# Altium schematic symbol library TMDX654GPEVM.SCHLIB: 339 symbols (part 3 of 6)
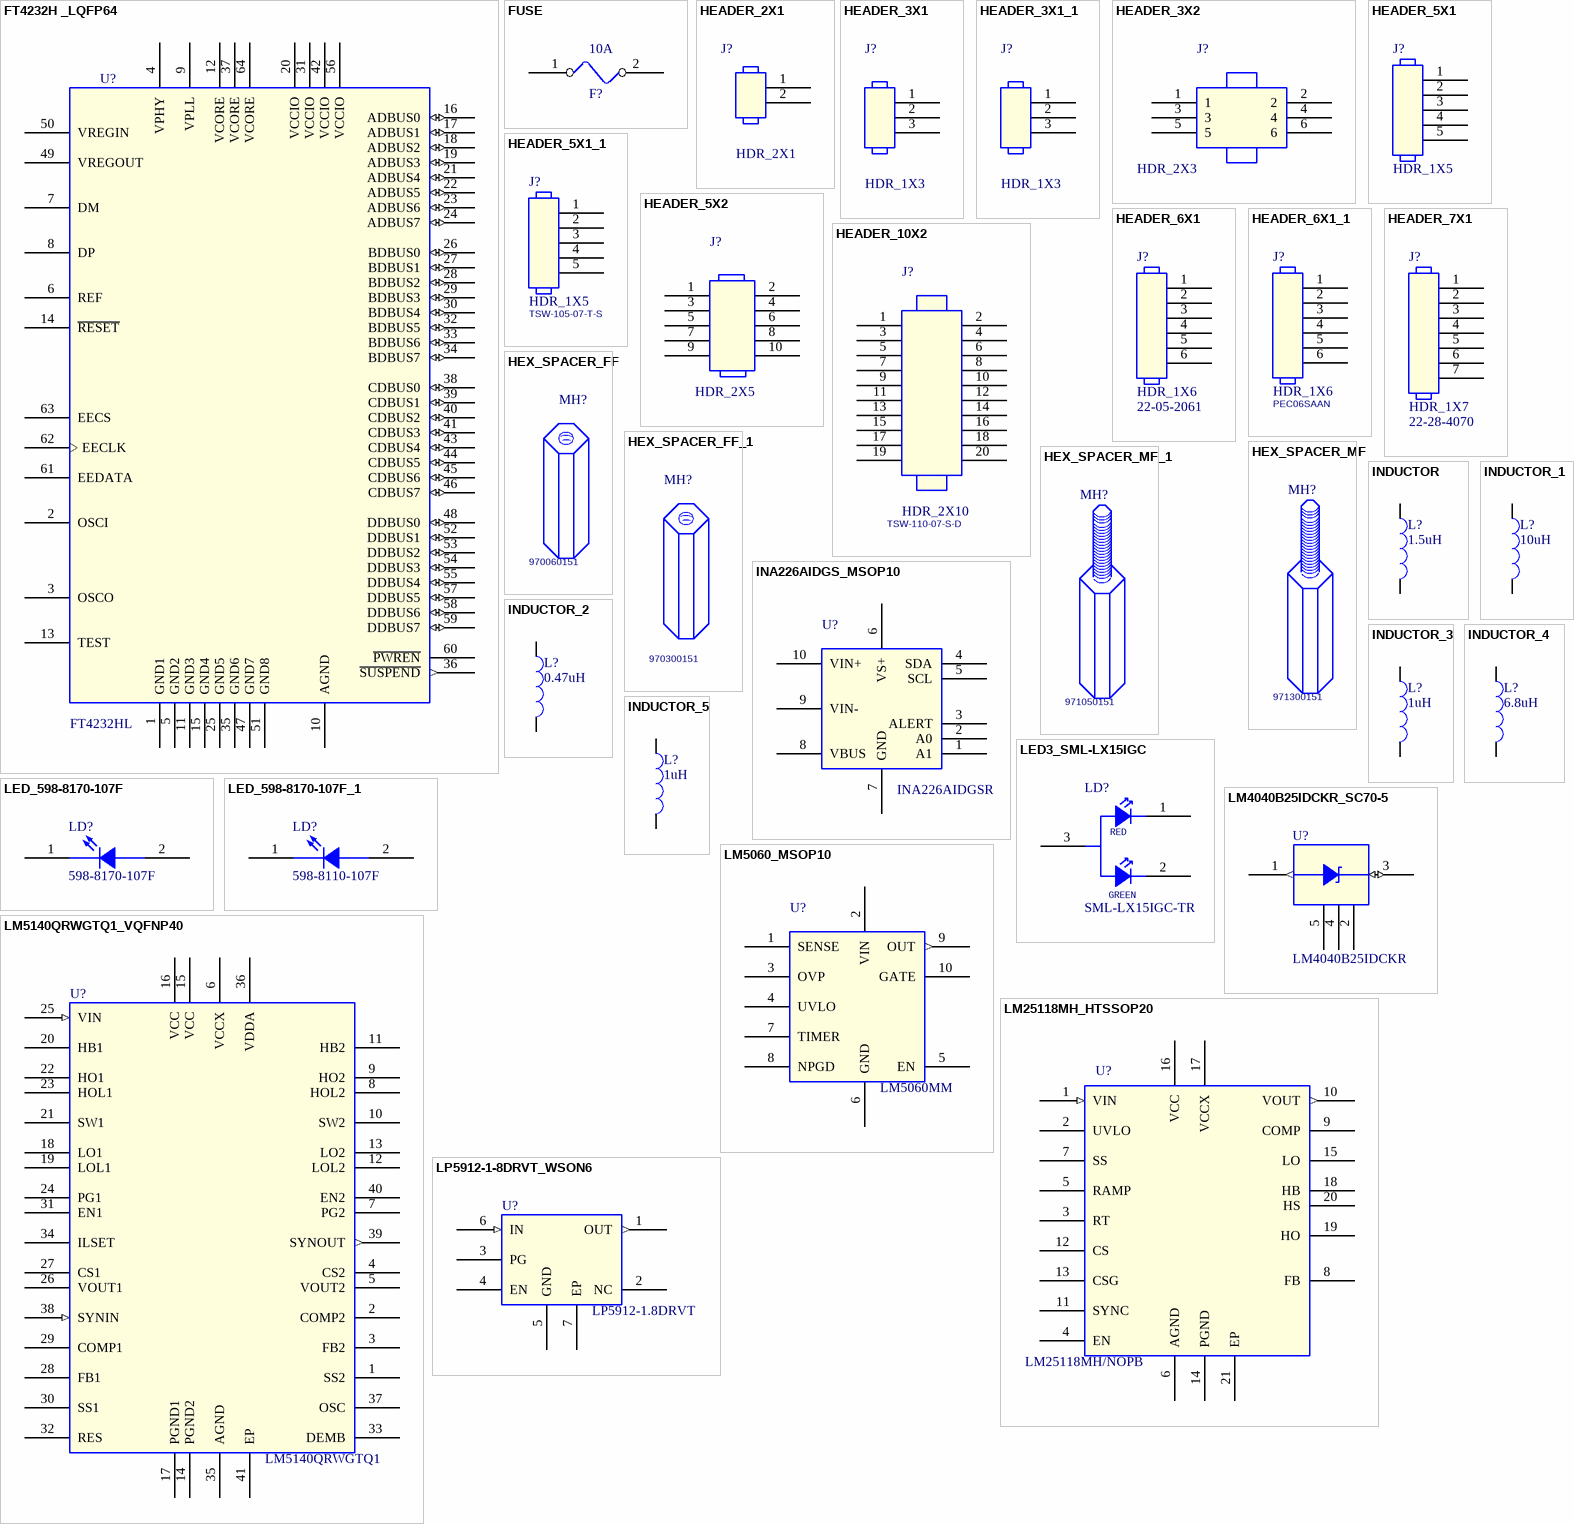
[diagram p22: symbols FT4232H _LQFP64 to LP5912-1-8DRVT_WSON6]

## FT4232H _LQFP64
designator U?, comment FT4232HL
IC HIGH SPEED QUAD USB UART LQFP64; Mistral Part No: 141013080006-R; Mfr_name: FTDI; Mfr_part_number: FT4232HL-REEL; Part_type: ICS\DIGITAL\PERIPHERAL; PCB Footprint: LQFP64_19-68_390X390_1-6; Project: DM37XX; Tolerance: NA; Customs_HS_Code: 85423100; Custom_Duty: 15%; MECHANICAL 3D STEP FILE: LQFP64_19-68_390X390_1-6; Voltage: NA; Wattage: NA; Package: LQFP64; Distributor_name: DIGIKEY; Distributor_part_number: 768-1026-1-ND; Height: 1.60MM; Weight: 342.7mg; Temperature: -40°C+85°C; Datasheet: Y:\MIS_DATABASE\DATASHEETS\ICS\DIGITAL\PERIPHERAL\FT4232HX.PDF; Crtd /date: VIJAYALAKSHMI/120813; Chkd/date: MANIRAJA/110917; Library Ref: FT4232H _LQFP64
footprint LQF64
footprint LQFP64_19-68_390X390_1-6
pins: 1 GND1 (power), 2 OSCI, 3 OSCO, 4 VPHY (power), 5 GND2 (power), 6 REF, 7 DM, 8 DP, 9 VPLL (power), 10 AGND (power), 11 GND3 (power), 12 VCORE (power), 13 TEST, 14 ~{RESET}, 15 GND4 (power), 16 ADBUS0 (io), 17 ADBUS1 (io), 18 ADBUS2 (io), 19 ADBUS3 (io), 20 VCCIO (power), 21 ADBUS4 (io), 22 ADBUS5 (io), 23 ADBUS6 (io), 24 ADBUS7 (io), 25 GND5 (power), 26 BDBUS0 (io), 27 BDBUS1 (io), 28 BDBUS2 (io), 29 BDBUS3 (io), 30 BDBUS4 (io), 31 VCCIO (power), 32 BDBUS5 (io), 33 BDBUS6 (io), 34 BDBUS7 (io), 35 GND6 (power), 36 ~{SUSPEND} (out), 37 VCORE (power), 38 CDBUS0 (io), 39 CDBUS1 (io), 40 CDBUS2 (io), 41 CDBUS3 (io), 42 VCCIO (power), 43 CDBUS4 (io), 44 CDBUS5 (io), 45 CDBUS6 (io), 46 CDBUS7 (io), 47 GND7 (power), 48 DDBUS0 (io), 49 VREGOUT (power), 50 VREGIN (power), 51 GND8 (power), 52 DDBUS1 (io), 53 DDBUS2 (io), 54 DDBUS3 (io), 55 DDBUS4 (io), 56 VCCIO (power), 57 DDBUS5 (io), 58 DDBUS6 (io), 59 DDBUS7 (io), 60 ~{PWREN}, 61 EEDATA, 62 EECLK, 63 EECS, 64 VCORE (power)

## FUSE
designator F?, comment 10A
FUSE 10A 60V FAST SMD; Mistral Part No: 130009030821-R; Mfr_name: COOPER BUSSMANN; Mfr_part_number: 1025FA10-R; Part_type: MISC\FUSE; Project: SMART VIEW_NVR; PCB Footprint: FUSE_397_410X110_SMD_2-9; Library Ref: FUSE; Voltage: 60V; Package: SMD; Distributor_name: DIGIKEY; Distributor_part_number: TR2/1025FA10-R-ND; Height: 2.90MM; Datasheet: Y:\MIS_DATABASE\DATASHEETS\MISC\FUSE\1025FA-SER.PDF; Crtd /date: MAZHAR/220907; Chkd/date: RAGESH/151010
footprint FUSE_397_410X110_SMD_2-9
pins: 1, 2

## HEADER_2X1
designator J?, comment HDR_2X1
CON HDR 2X1 2.54MM PITCH ST TH; Part_type: CONNECTOR\HEADERS; Mfr_name: MOLEX; Mistral Part No: 150009030246-R; PCB Footprint: HDR_2X1_100_S_T_10-8; Custom_Duty: 24%; Customs_HS_Code: 85369090; Project: FPGA EXTENDER CARD; Tolerance: NA; Chkd/date: VASANTHA/060117; Crtd /date: MAZHAR/280405; Datasheet: Y:\MIS_DATABASE\DATASHEETS\CONNECTORS\HEADER_X4030.PDF; Height: 10.79MM; Distributor_part_number: WM4000-ND; Distributor_name: DIGIKEY; Package: THRU-HOLE; Mfr_part_number: 22-03-2021; Voltage: NA; Wattage: NA; Weight: 139gm; Temperature: -0°C+75°C; MECHANICAL 3D STEP FILE: HDR_2X1_100_S_T_10-8; Library Path: Y:\MIS_DATABASE\Library\ALTIUM_TOOL\SCHEMATICS_PARTS\MS_Connector_Library.schlib; Footprint Path: Y:\MIS_DATABASE\Library\ALTIUM_TOOL\PCB_FOOTPRINTS\Altium_Footprint_Lib.PcbLib; Library Ref: HEADER_2X1; Footprint Ref: HDR_2X1_100_S_T_10-8
footprint HDR_2X1_100_S_T_10-8
pins: 1, 2

## HEADER_3X1
designator J?, comment HDR_1X3
HDR 1X3 2.54MM PITCH ST TH; Part_type: CONNECTOR\HEADERS; Mfr_part_number: 68001-403HLF; Mfr_name: FCI; Mistral Part No: 150016060025-R; PCB Footprint: HDR_3X1_100_S_T; Custom_Duty: 15%; Customs_HS_Code: 85322990; Wattage: NA; Project: IKEYP; Library Ref: HEADER_3X1; Chkd/date: VASANTHA/290616; Crtd /date: VASANTHA/290616; Datasheet: Y:\MIS_DATABASE\DATASHEETS\CONNECTORS\68000.PDF; Temperature: -40°C+105°C; Weight: NA; Height: 8.58MM; Distributor_part_number: 609-3471-ND; Distributor_name: DIGIKEY; Package: THRU-HOLE; Voltage: NA; Tolerance: NA
footprint HDR_3X1_100_S_T
pins: 1, 2, 3

## HEADER_3X1_1
designator J?, comment HDR_1X3
CON HDR 1X3 2.00MM PITCH ST TH; Part_type: CONNECTOR\HEADERS; Mfr_part_number: 440054-3; Mfr_name: TE CONNECTIVITY; Mistral Part No: 150017100038-R; PCB Footprint: HDR_1X3_440054-3_S_T_6-4; Custom_Duty: 24%; Customs_HS_Code: 85369090; Wattage: NA; Project: TI_MAXIE_CPB; Library Ref: HEADER_3X1; MECHANICAL 3D STEP FILE: HDR_1X3_440054-3_S_T_6-4; Chkd/date: MANIRAJA/261017; Crtd /date: MANIRAJA/261017; Datasheet: Y:\MIS_DATABASE\DATASHEETS\CONNECTORS\440054XXX.PDF; Temperature: -25°C+85°C; Weight: NA; Height: 6.35MM; Distributor_part_number: A100035-ND; Distributor_name: DIGIKEY; Package: THRU-HOLE; Voltage: NA; Tolerance: NA
footprint HDR_1X3_440054-3_S_T_6-4
pins: 1, 2, 3

## HEADER_3X2
designator J?, comment HDR_2X3
CON HDR 2X3 2.54MM PITCH ST TH; Mistral Part No: 150018010019-R; Mfr_name: SAMTEC; Mfr_part_number: TSW-103-07-T-D; Part_type: CONNECTOR\HEADERS; OCT Option: G; PCB Footprint: HDR_2X3_TSW-103-07-D_S_T_8-4; Project: TI_MAXIE_CPB; Tolerance: NA; Customs_HS_Code: 85369090; Custom_Duty: 24%; Voltage: NA; Wattage: NA; Package: THRU-HOLE; Distributor_name: DIGIKEY; Distributor_part_number: SAM1034-03-ND; Height: 8.38MM; Weight: NA; Temperature: -55°C+105°C; Datasheet: Y:\MIS_DATABASE\DATASHEETS\CONNECTORS\TSW-MK.PDF; Crtd /date: MANIRAJA/220118; Chkd/date: MANIRAJA/230118; MECHANICAL 3D STEP FILE: HDR_2X3_TSW-103-07-D_S_T_8-4; Library Ref: HEADER_3X2
footprint CON_3X2_SM_2MM
footprint HDR_2X3_TSW-103-07-D_S_T_8-4
pins: 1, 2, 3, 4, 5, 6

## HEADER_5X1
designator J?, comment HDR_1X5
CON HDR 1X5 2.54MM PITCH ST TH; Mistral Part No: 150009030262-R; Mfr_name: MOLEX; Part_type: CONNECTOR\HEADERS; PCB Footprint: HDR_5X1_100_S_T_11-2; Wattage: NA; Project: HSWD; Customs_HS_Code: 85369090; Custom_Duty: 24%; MECHANICAL 3D STEP FILE: HDR_5X1_100_S_T_11-2; Temperature: NA; Weight: 343mg; Voltage: NA; Tolerance: NA; Mfr_part_number: 22-03-2051; Package: THRU-HOLE; Distributor_name: DIGIKEY; Distributor_part_number: WM4003-ND; Height: 11.17MM; Datasheet: Y:\MIS_DATABASE\DATASHEETS\CONNECTORS\MOLEX022032021.PDF; Crtd /date: MAZHAR/280405; Chkd/date: VASANTHA/310117; Library Ref: HEADER_5X1
footprint HDR_5X1_100_S_T_11-2
pins: 1, 2, 3, 4, 5

## HEADER_5X1_1
designator J?, comment HDR_1X5  Mfr_part_number: TSW-105-07-T-S
CON HDR 1X5 2.54MM PITCH ST TH; Part_type: CONNECTOR\HEADERS; Mfr_name: SAMTEC; Mistral Part No: 150017090001-R; PCB Footprint: HDR_5X1_100_S_T_8-4; Custom_Duty: 24%; Customs_HS_Code: 85369090; Wattage: NA; Project: TI_MAXIE_CPB; Library Ref: HEADER_5X1; MECHANICAL 3D STEP FILE: HDR_5X1_100_S_T_8-4; Chkd/date: MANIRAJA/010917; Crtd /date: MANIRAJA/010917; Datasheet: Y:\MIS_DATABASE\DATASHEETS\CONNECTORS\TSW-MK.PDF; Temperature: -55°C+105°C; Weight: NA; Height: 8.38MM; Distributor_part_number: SAM1035-05-ND; Distributor_name: DIGIKEY; Package: THRU-HOLE; Voltage: NA; Tolerance: NA
footprint HDR_5X1_100_S_T_8-4
pins: 1, 2, 3, 4, 5

## HEADER_5X2
designator J?, comment HDR_2X5
CON HDR 2X5 1.27MM PITCH ST TH; Part_type: CONNECTOR\HEADERS; Mfr_part_number: TFC-105-01-L-D-A; Mfr_name: SAMTEC; Mistral Part No: 150017100027-R; MECHANICAL 3D STEP FILE: HDR_2X5_TFC-105-01-D-A_S_T_5-6; Custom_Duty: 24%; Customs_HS_Code: 85369090; Wattage: NA; Project: TI_MAXIE_CPB; Library Ref: HEADER_5X2; Chkd/date: VASANTHA/181017; Crtd /date: VASANTHA/181017; Datasheet: Y:\MIS_DATABASE\DATASHEETS\CONNECTORS\TFC-TH-SERIES.PDF; Temperature: -55°C+125°C; Weight: NA; Height: 5.59MM; Distributor_part_number: NA; Distributor_name: NA; Package: THRU-HOLE; Voltage: NA; Tolerance: NA; PCB Footprint: HDR_2X5_TFC-105-01-D-A_S_T_5-6
footprint HDR_2X5_TFC-105-01-D-A_S_T_5-6
pins: 1, 2, 3, 4, 5, 6, 7, 8, 9, 10

## HEADER_6X1
designator J?, comment HDR_1X6  Mfr_part_number: 22-05-2061
CON HDR 1X6 2.54MM PITCH RT TH; Mistral Part No: 150018010023-R; Mfr_name: MOLEX; Part_type: CONNECTOR\HEADERS; Project: TI_MAXIE_CPB; Tolerance: NA; Customs_HS_Code: 85369090; Custom_Duty: 24%; PCB Footprint: HDR_1X6_22052061_R_T_6-3; Library Ref: HEADER_6X1; Voltage: NA; Wattage: NA; Package: THRU-HOLE; Distributor_name: DIGIKEY; Distributor_part_number: WM4104-ND; Height: 6.30MM; Weight: 484mg; Temperature: NA; Datasheet: Y:\MIS_DATABASE\DATASHEETS\CONNECTORS\A-4094-SER.PDF; Crtd /date: MANIRAJA/240118; Chkd/date: MANIRAJA/240118; MECHANICAL 3D STEP FILE: HDR_1X6_22052061_R_T_6-3
footprint HDR_1X6_22052061_R_T_6-3
pins: 1, 2, 3, 4, 5, 6

## HEADER_6X1_1
designator J?, comment HDR_1X6  Mfr_part_number: PEC06SAAN
HDR 1X6 2.54 PITCH ST TH; Mistral Part No: 150016060022-R; Mfr_name: SULLINS; Part_type: CONNECTOR\HEADERS; PCB Footprint: HDR_6X1_100_S_T; Project: NTR_GPSDO BOX CARD; Tolerance: NA; Customs_HS_Code: 85369090; Custom_Duty: 24%; Library Ref: HEADER_6X1; Voltage: NA; Wattage: NA; Package: THRU HOLE; Distributor_name: DIGIKEY; Distributor_part_number: S1012E-06-ND; Height: 8.38MM; Weight: NA; Temperature: -65°C+125°C; Datasheet: Y:\MIS_DATABASE\DATASHEETS\CONNECTORS\PECXXX_SERIES.PDF; Crtd /date: VASANTHA/220616; Chkd/date: VASANTHA/220616
footprint HDR_6X1_100_S_T
pins: 1, 2, 3, 4, 5, 6

## HEADER_7X1
designator J?, comment HDR_1X7  Mfr_part_number: 22-28-4070
CON HDR 1X7 2.54MM PITCH ST TH; Part_type: CONNECTOR\HEADERS; Mfr_name: MOLEX; Mistral Part No: 150018010021-R; MECHANICAL 3D STEP FILE: HDR_1X7_22284070_S_T_8-4; Custom_Duty: 24%; Customs_HS_Code: 85369090; Wattage: NA; Project: TI_MAXIE_CPB; Library Ref: HEADER_7X1; Chkd/date: MANIRAJA/230118; Crtd /date: ALVY/230118; Datasheet: Y:\MIS_DATABASE\DATASHEETS\CONNECTORS\22-28-SER.PDF; Temperature: NA; Weight: 431mg; Height: 8.38MM; Distributor_part_number: WM50014-07-ND; Distributor_name: DIGIKEY; Package: THRU-HOLE; Voltage: NA; Tolerance: NA; PCB Footprint: HDR_1X7_22284070_S_T_8-4
footprint HDR_1X7_22284070_S_T_8-4
pins: 1, 2, 3, 4, 5, 6, 7

## HEADER_10X2
designator J?, comment HDR_2X10  Mfr_part_number: TSW-110-07-S-D
CON HDR 2X10 2.54MM PITCH ST TH; Part_type: CONNECTOR\HEADERS; Mfr_name: SAMTEC; Mistral Part No: 150009090001-R; PCB Footprint: HDR_2X10_TSW_100_S_T; Custom_Duty: 0.24; Customs_HS_Code: 85369090; Wattage: NA; Project: SMART VIEW_NVR; Library Ref: HEADER_10X2; Chkd/date: NAVEED/140515; Crtd /date: MAZHAR/020909; Datasheet: Y:\MIS_DATABASE\DATASHEETS\CONNECTORS\TSW-106-23-T-S.PDF; Temperature: NA; Weight: NA; Height: 5.02MM; Distributor_part_number: SAM1032-10-ND; Distributor_name: DIGIKEY; Package: THRU-HOLE; Voltage: NA; Tolerance: NA
footprint HDR_2X10_TSW_100_S_T
pins: 1, 2, 3, 4, 5, 6, 7, 8, 9, 10, 11, 12, 13, 14, 15, 16, 17, 18, 19, 20

## HEX_SPACER_FF
designator MH?, comment Mfr_part_number: 970060151  (hidden comment: HEX SPACER_M2.5 X 6)
HEX SPACER FEMALE TO FEMALE M2.5 X 6MM; Mistral Part No: 160018020075-R; Mfr_name: WURTH ELECTRONICS; Part_type: MECHANICAL\SPACER; Project: TI_MAXIE_CPB; Tolerance: NA; Voltage: NA; Wattage: NA; Package: SS; Distributor_name: DIGIKEY; Distributor_part_number: 732-10524-ND; Library Ref: HEX_SPACER_FF; Footprint Ref: NA; Height: 6.00MM; Weight: NA; Temperature: NA; Datasheet: Y:\MIS_DATABASE\DATASHEETS\MISC\MECHANICAL\970XXX1.PDF; Crtd /date: MANIRAJA/190218; Chkd/date: MANIRAJA/190218; MECHANICAL 3D STEP FILE: NA; Library Path: Y:\MIS_DATABASE\Library\ALTIUM_TOOL\SCHEMATICS_PARTS\MS_MECHANICAL_Library.schlib; Footprint Path: Y:\MIS_DATABASE\Library\ALTIUM_TOOL\PCB_FOOTPRINTS\Altium_Footprint_Lib.PcbLib; PCB Footprint: NA
footprint NA

## HEX_SPACER_FF_1
designator MH?, comment Mfr_part_number: 970300151  (hidden comment: HEX SPACER_M2.5 X 30)
HEX SPACER FEMALE TO FEMALE M2.5 X 30MM; Mistral Part No: 160018020071-R; Mfr_name: WURTH ELECTRONICS; Part_type: MECHANICAL\SPACER; Project: TI_MAXIE_CPB; Tolerance: NA; Voltage: NA; Wattage: NA; Package: SS; Distributor_name: DIGIKEY; Distributor_part_number: 732-10626-ND; Library Ref: HEX_SPACER_FF; Footprint Ref: NA; Height: 30.00MM; Weight: NA; Temperature: NA; Datasheet: Y:\MIS_DATABASE\DATASHEETS\MISC\MECHANICAL\970XXX1.PDF; Crtd /date: MANIRAJA/190218; Chkd/date: MANIRAJA/190218; MECHANICAL 3D STEP FILE: NA; Library Path: Y:\MIS_DATABASE\Library\ALTIUM_TOOL\SCHEMATICS_PARTS\MS_MECHANICAL_Library.schlib; Footprint Path: Y:\MIS_DATABASE\Library\ALTIUM_TOOL\PCB_FOOTPRINTS\Altium_Footprint_Lib.PcbLib; PCB Footprint: NA
footprint NA

## HEX_SPACER_MF
designator MH?, comment Mfr_part_number: 971300151  (hidden comment: HEX SPACER_M2.5 X 30)
HEX SPACER MALE TO FEMALE M2.5 X 30MM; Mistral Part No: 160018020073-R; Mfr_name: WURTH ELECTRONICS; Part_type: MECHANICAL\SPACER; Project: TI_MAXIE_CPB; Tolerance: NA; Voltage: NA; Wattage: NA; Package: SS; Distributor_name: DIGIKEY; Distributor_part_number: 732-10464-ND; Library Ref: HEX_SPACER_MF; Footprint Ref: NA; Height: 30.00MM; Weight: NA; Temperature: NA; Datasheet: Y:\MIS_DATABASE\DATASHEETS\MISC\MECHANICAL\971XX0XX1.PDF; Crtd /date: MANIRAJA/190218; Chkd/date: MANIRAJA/190218; MECHANICAL 3D STEP FILE: NA; Library Path: Y:\MIS_DATABASE\Library\ALTIUM_TOOL\SCHEMATICS_PARTS\MS_MECHANICAL_Library.schlib; Footprint Path: Y:\MIS_DATABASE\Library\ALTIUM_TOOL\PCB_FOOTPRINTS\Altium_Footprint_Lib.PcbLib; PCB Footprint: NA
footprint NA

## HEX_SPACER_MF_1
designator MH?, comment Mfr_part_number: 971050151  (hidden comment: HEX SPACER_M2.5 X 5)
HEX SPACER MALE TO FEMALE M2.5 X 5MM; Part_type: MECHANICAL\SPACER; Mfr_name: WURTH ELECTRONICS; Mistral Part No: 160018020072-R; MECHANICAL 3D STEP FILE: NA; Project: TI_MAXIE_CPB; Footprint Path: Y:\MIS_DATABASE\Library\ALTIUM_TOOL\PCB_FOOTPRINTS\Altium_Footprint_Lib.PcbLib; Library Path: Y:\MIS_DATABASE\Library\ALTIUM_TOOL\SCHEMATICS_PARTS\MS_MECHANICAL_Library.schlib; Chkd/date: MANIRAJA/190218; Crtd /date: MANIRAJA/190218; Datasheet: Y:\MIS_DATABASE\DATASHEETS\MISC\MECHANICAL\971XX0XX1.PDF; Temperature: NA; Weight: NA; Height: 5.00MM; Footprint Ref: NA; Library Ref: HEX_SPACER_MF; Distributor_part_number: 732-10380-ND; Distributor_name: DIGIKEY; Package: SS; Wattage: NA; Voltage: NA; Tolerance: NA; PCB Footprint: NA
footprint NA

## INA226AIDGS_MSOP10
designator U?, comment INA226AIDGSR
IC BI-DIRECTIONAL CURRENT MONITER MSOP10; Mistral Part No: 141011080019-R; Mfr_name: TEXAS INSTRUMENTS; Part_type: ICS\INTERFACE; Project: DM385EVM_BASE-BOARD; Tolerance: NA; Customs_HS_Code: 85423100; Custom_Duty: 15%; PCB Footprint: MSOP10_19-68_120X120_1-1; Chkd/date: MANIRAJA/050417; Mfr_part_number: INA226AIDGSR; Voltage: NA; Wattage: NA; Package: MSOP10; Distributor_name: DIGIKEY; Distributor_part_number: 296-29034-1-ND; Height: 1.10MM; Weight: NA; Temperature: -40°C+125°C; Datasheet: Y:\MIS_DATABASE\DATASHEETS\ICS\INTERFACE\INA226.PDF; Crtd /date: MANIRAJA/050417; MECHANICAL 3D STEP FILE: MSOP10_19-68_120X120_1-1; Library Ref: INA226AIDGS_MSOP10; Footprint Ref: MSOP10_19-68_120X120_1-1; Library Path: Y:\MIS_DATABASE\Library\ALTIUM_TOOL\SCHEMATICS_PARTS\MS_MISCINTERFACE_Library.schlib; Footprint Path: Y:\MIS_DATABASE\Library\ALTIUM_TOOL\PCB_FOOTPRINTS\Altium_Footprint_Lib.PcbLib
footprint MSOP10_19-68_120X120_1-1
pins: 1 A1, 2 A0, 3 ALERT, 4 SDA, 5 SCL, 6 VS+ (power), 7 GND (power), 8 VBUS, 9 VIN-, 10 VIN+

## INDUCTOR
designator L?, comment 1.5uH
IND POWER 1.5uH 15.1A 20% SMD; Part_type: INDUCTOR; Mfr_part_number: ETQ-P4M1R5KVK; Mfr_name: PANASONIC; Mistral Part No: 130017100018-R; PCB Footprint: IND_ETQP4MKVK_350X330_SMD_4; Custom_Duty: 24%; Customs_HS_Code: 85437099; Wattage: NA; Project: TI_MAXIE_CPB; MECHANICAL 3D STEP FILE: IND_ETQP4MKVK_350X330_SMD_4; Chkd/date: MANIRAJA/171017; Crtd /date: MANIRAJA/171017; Datasheet: Y:\MIS_DATABASE\DATASHEETS\DISCRETES\INDUCTORS\ETQPXX-SER.PDF; Temperature: -55°C+155°C; Weight: NA; Height: 4.00MM; Distributor_part_number: PCD2466CT-ND; Distributor_name: DIGIKEY; Package: SMD; Voltage: NA; Tolerance: 20%; Library Ref: INDUCTOR
footprint IND_ETQP4MKVK_350X330_SMD_4
pins: 1, 2

## INDUCTOR_1
designator L?, comment 10uH
IND POWER 10uH 5.7A 20% SMD; Part_type: INDUCTOR; Mfr_part_number: ETQ-P5M100YFM; Mfr_name: PANASONIC; Mistral Part No: 130017100020-R; MECHANICAL 3D STEP FILE: IND_ETQP5MYFM_310X290_SMD_5-4; Wattage: NA; Custom_Duty: 24%; Customs_HS_Code: 85437099; Project: TI_MAXIE_CPB; Temperature: -40°C+150°C; Weight: NA; PCB Footprint: IND_ETQP5MYFM_310X290_SMD_5-4; Voltage: NA; Chkd/date: MANIRAJA/171017; Crtd /date: MANIRAJA/171017; Datasheet: Y:\MIS_DATABASE\DATASHEETS\DISCRETES\INDUCTORS\ETQ-P5XX-SER.PDF; Height: 5.40MM; Distributor_part_number: P17067CT-ND; Distributor_name: DIGIKEY; Package: SMD; Tolerance: 20%; Library Ref: INDUCTOR
footprint IND_ETQP5MYFM_310X290_SMD_5-4
pins: 1, 2

## INDUCTOR_2
designator L?, comment 0.47uH
IND POWER 0.47uH 20% 11.2A SMD; Part_type: INDUCTOR; Mfr_part_number: XFL4015-471MEB; Mfr_name: COILCARFT; Mistral Part No: 130018020040-R; MECHANICAL 3D STEP FILE: IND_XEL4030_170X170_SMD_1-6; Custom_Duty: 24%; Customs_HS_Code: 85437099; Wattage: NA; Project: TI_MAXIE_CPB; Chkd/date: MANIRAJA/150218; Crtd /date: ALVY/150218; Datasheet: Y:\MIS_DATABASE\DATASHEETS\DISCRETES\INDUCTORS\XFL4015.PDF; Temperature: -40°C+125°C; Weight: 95mg; Height: 1.60MM; Distributor_part_number: 994-XFL4015-471MEB; Distributor_name: MOUSER; Package: SMD; Voltage: NA; Tolerance: 20%; PCB Footprint: IND_XEL4030_170X170_SMD_1-6; Library Path: Y:\MIS_DATABASE\Library\ALTIUM_TOOL\SCHEMATICS_PARTS\MS_DISCRETE_Library.schlib; Footprint Path: Y:\MIS_DATABASE\Library\ALTIUM_TOOL\PCB_FOOTPRINTS\Altium_Footprint_Lib.PcbLib; Library Ref: INDUCTOR; Footprint Ref: IND_XEL4030_170X170_SMD_1-6
footprint IND_XEL4030_170X170_SMD_1-6
pins: 1, 2

## INDUCTOR_3
designator L?, comment 1uH
IND POWER 1uH 4.4A 20% SMD; Part_type: INDUCTOR; Mfr_part_number: IHLP2020ABER1R0M01; Mfr_name: VISHAY; Mistral Part No: 130017030015-R; MECHANICAL 3D STEP FILE: IND_IHLP2020AB_210X210_SMD_1-2; Custom_Duty: 24%; Customs_HS_Code: 85437099; Wattage: NA; Project: ADA_3U_FMC; Chkd/date: VASANTHA/170317; Crtd /date: MANIRAJA/160317; Datasheet: Y:\MIS_DATABASE\DATASHEETS\DISCRETES\INDUCTORS\IHLP2020AB.PDF; Temperature: -55°C+125°C; Weight: 200mg; Height: 1.20MM; Distributor_part_number: 541-1704-1-ND; Distributor_name: DIGIKEY; Package: SMD; Voltage: NA; Tolerance: 20%; PCB Footprint: IND_IHLP2020AB_210X210_SMD_1-2; Library Ref: INDUCTOR
footprint IND_IHLP2020AB_210X210_SMD_1-2
pins: 1, 2

## INDUCTOR_4
designator L?, comment 6.8uH
IND POWER 6.8uH 6.5A 20% SMD; Part_type: INDUCTOR; Mfr_part_number: 74439346068; Mfr_name: WURTH ELECTRONICS; Mistral Part No: 130017100019-R; MECHANICAL 3D STEP FILE: IND_74439346068_260X270_SMD_6-1; Custom_Duty: 24%; Customs_HS_Code: 85437099; Wattage: NA; Project: TI_MAXIE_CPB; Library Ref: INDUCTOR; Chkd/date: MANIRAJA/171017; Crtd /date: MANIRAJA/171017; Datasheet: Y:\MIS_DATABASE\DATASHEETS\DISCRETES\INDUCTORS\74439346068.PDF; Temperature: -40°C+125°C; Weight: NA; Height: 6.10MM; Distributor_part_number: 732-10705-1-ND; Distributor_name: DIGIKEY; Package: SMD; Voltage: NA; Tolerance: 20%; PCB Footprint: IND_74439346068_260X270_SMD_6-1
footprint IND_74439346068_260X270_SMD_6-1
pins: 1, 2

## INDUCTOR_5
designator L?, comment 1uH
IND POWER 1uH 8A 20% SMD; Part_type: INDUCTOR; Mfr_part_number: XFL4020-102MEC; Mfr_name: COIL CRAFT; Mistral Part No: 130012030053-R; PCB Footprint: IND_XFL4020_170X170_SMD_2-1; Custom_Duty: 24%; Customs_HS_Code: 85437099; Wattage: NA; Project: IRIS; Library Ref: INDUCTOR; MECHANICAL 3D STEP FILE: IND_XFL4020_170X170_SMD_2-1; Chkd/date: VASANTHA/050117; Crtd /date: CHAITHANYA/290312; Datasheet: Y:\MIS_DATABASE\DATASHEETS\DISCRETES\INDUCTORS\XFL4020.PDF; Temperature: -40°C+85°C; Weight: 169mg; Height: 2.10MM; Distributor_part_number: 994-XFL4020-102MEC; Distributor_name: MOUSER; Package: SMD; Voltage: NA; Tolerance: 20%
footprint IND_XFL4020_170X170_SMD_2-1
pins: 1, 2

## LED3_SML-LX15IGC
designator LD?, comment SML-LX15IGC-TR
DIODE LED GREEN/RED SMD; Part_type: OPTO\LED; Mfr_name: LUMEX; Mistral Part No: 130017090021-R; PCB Footprint: LED3_SML-LX15IGC_120X120_SMD_1; Custom_Duty: 24%; Customs_HS_Code: 85439000; Wattage: NA; Project: TI_MAXIE_CPB; MECHANICAL 3D STEP FILE: LED3_SML-LX15IGC_120X120_SMD_1; Chkd/date: MANIRAJA/180917; Crtd /date: MANIRAJA/180917; Datasheet: Y:\MIS_DATABASE\DATASHEETS\DISCRETES\LEDS\SML-LX15IGC.PDF; Temperature: -40°C+85°C; Weight: NA; Height: 1.00MM; Distributor_part_number: 67-2193-1-ND; Distributor_name: DIGIKEY; Package: SMD; Voltage: NA; Tolerance: NA; Mfr_part_number: SML-LX15IGC-TR; Library Ref: LED3_SML-LX15IGC
footprint LED3_SML-LX15IGC_120X120_SMD_1
pins: 1 CATHODE1, 2 CATHODE2, 3 ANODE
text: RED; GREEN

## LED_598-8170-107F
designator LD?, comment 598-8170-107F
LED ALINGAP GREEN CLEAR 0805; Mistral Part No: 130014050065-R; Mfr_name: DIALIGHT; Part_type: OPTO\LED; Project: AEGIS GP BETA2; Tolerance: NA; Customs_HS_Code: 85437099; Custom_Duty: 24%; MECHANICAL 3D STEP FILE: LED_0805_0-7; Mfr_part_number: 598-8170-107F; Voltage: NA; Wattage: NA; Package: 0805; Distributor_name: DIGIKEY; Distributor_part_number: 350-2044-1-ND; Height: 0.70MM; Weight: NA; Temperature: -30°C+85°C; Datasheet: Y:\MIS_DATABASE\DATASHEETS\DISCRETES\LEDS\598-SER.PDF; Crtd /date: SARANYA/070514; Chkd/date: MANIRAJA/230817; PCB Footprint: LED_0805_0-7; Library Ref: LED_598-8170-107F
footprint LED_0805_0-7
pins: 1, 2

## LED_598-8170-107F_1
designator LD?, comment 598-8110-107F
LED ALINGAP RED CLEAR 0805 SMD; Part_type: OPTO\LED; Mfr_name: DIALIGHT; Mistral Part No: 130014050069-R; PCB Footprint: LED_0805; Custom_Duty: 24%; Customs_HS_Code: 85437099; Wattage: NA; Project: AEGIS GP BETA2; Chkd/date: BALACHANDAR/160514; Crtd /date: SARANYA/070514; Datasheet: Y:\MIS_DATABASE\DATASHEETS\DISCRETES\LEDS\598-SER.PDF; Temperature: NA; Weight: NA; Height: 0.70MM; Distributor_part_number: 350-2038-1-ND; Distributor_name: DIGIKEY; Package: 0805; Voltage: NA; Tolerance: NA; Mfr_part_number: 598-8110-107F; Library Ref: LED_598-8170-107F
footprint LED_0805
pins: 1, 2

## LM4040B25IDCKR_SC70-5
designator U?, comment LM4040B25IDCKR
IC PRECISION MICROPOWER SHUNT VOLTAGE REFERENCE SC70-5; Part_type: ICS\POWER\VOLTAGE REGULATOR; Mfr_name: TEXAS INSTRUMENTS; Mistral Part No: 142017080015-R; PCB Footprint: SC70-5_1-1; Custom_Duty: 15%; Customs_HS_Code: 85423100; Wattage: NA; Project: TI_MAXIE_CPB; MECHANICAL 3D STEP FILE: SC70-5_1-1; Chkd/date: MANIRAJA/230817; Crtd /date: MANIRAJA/230817; Datasheet: Y:\MIS_DATABASE\DATASHEETS\ICS\POWER\LM4040B25I.PDF; Temperature: -40°C+85°C; Weight: 30mg; Height: 1.10MM; Distributor_part_number: 296-20873-1-ND; Distributor_name: DIGIKEY; Package: SC70-5; Voltage: NA; Tolerance: NA; Mfr_part_number: LM4040B25IDCKR; Library Ref: LM4040B25IDCKR_SC70-5
footprint SC70-5_1-1
pins: 1 ANODE (out), 2 NC1, 3 CATHODE (io), 4 NC2, 5 NC3

## LM5060_MSOP10
designator U?, comment LM5060MM
IC CONTROLLER HIGH-SIDE PROTECTION VSSOP10; Part_type: ICS\POWER\MANAGEMENT; Mfr_part_number: LM5060MM/NOPB; Mfr_name: TEXAS INSTRUMENTS; Mistral Part No: 142015100007-R; Custom_Duty: 15%; Customs_HS_Code: 85423100; Wattage: NA; Project: GALILEO_EVM; PCB Footprint: MSOP10_19-68_120X120; Library Ref: LM5060_MSOP10; Chkd/date: VASANTHA/101015; Crtd /date: VASANTHA/101015; Datasheet: Y:\MIS_DATABASE\DATASHEETS\ICS\POWER\LM5060-TI.PDF; Temperature: -40°C+125°C; Weight: NA; Height: 1.10MM; Distributor_part_number: 296-39024-1-ND; Distributor_name: DIGIKEY; Package: VSSOP10; Voltage: NA; Tolerance: NA
footprint MSOP10_19-68_120X120
pins: 1 SENSE, 2 VIN (power), 3 OVP, 4 UVLO, 5 EN, 6 GND (power), 7 TIMER, 8 NPGD, 9 OUT (out), 10 GATE

## LM5140QRWGTQ1_VQFNP40
designator U?, comment LM5140QRWGTQ1
IC WIDE I/P DUAL SYNCHRONOUS BUCK CONTROLLER VQFNP40; Mistral Part No: 142017100003-R; Mfr_name: TEXAS INSTRUMENTS; Part_type: ICS\POWER\CONVERTER; PCB Footprint: QFN40_19-68_240X240_0-9; Project: TI_MAXIE_CPB; Tolerance: NA; Customs_HS_Code: 85423100; Custom_Duty: 15%; Mfr_part_number: LM5140QRWGTQ1; Voltage: NA; Wattage: NA; Package: VQFNP40; Distributor_name: DIGIKEY; Distributor_part_number: 296-43790-1-ND; Height: 0.90MM; Weight: 104mg; Temperature: -40°C+150°C; Datasheet: Y:\MIS_DATABASE\DATASHEETS\ICS\POWER\LM5140QRWGXX.PDF; Crtd /date: MANIRAJA/041017; Chkd/date: MANIRAJA/041017; MECHANICAL 3D STEP FILE: QFN40_19-68_240X240_0-9; Library Ref: LM5140QRWGTQ1_VQFNP40
footprint TBD
footprint QFN40_19-68_240X240_0-9
pins: 1 SS2, 2 COMP2, 3 FB2, 4 CS2, 5 VOUT2 (power), 6 VCCX (power), 7 PG2, 8 HOL2, 9 HO2, 10 SW2, 11 HB2, 12 LOL2, 13 LO2, 14 PGND2 (power), 15 VCC (power), 16 VCC (power), 17 PGND1 (power), 18 LO1, 19 LOL1, 20 HB1, 21 SW1, 22 HO1, 23 HOL1, 24 PG1, 25 VIN (in), 26 VOUT1 (power), 27 CS1, 28 FB1, 29 COMP1, 30 SS1, 31 EN1, 32 RES, 33 DEMB, 34 ILSET, 35 AGND (power), 36 VDDA (power), 37 OSC, 38 SYNIN (in), 39 SYNOUT (out), 40 EN2, 41 EP (power)

## LM25118MH_HTSSOP20
designator U?, comment LM25118MH/NOPB
IC WIDE VOLTAGE BUCK BOOST CONTROLLER HTSSOP20; Mistral Part No: 142017090017-R; Mfr_name: TEXAS INSTRUMENTS; Part_type: ICS\POWER\VOLTAGE REGULATOR; PCB Footprint: ETSSOP20_25-59_260X180_1-1; Project: TI_MAXIE_CPB; Tolerance: NA; Customs_HS_Code: 85423100; Custom_Duty: 15%; Mfr_part_number: LM25118MH/NOPB; Voltage: NA; Wattage: NA; Package: HTSSOP20; Distributor_name: DIGIKEY; Distributor_part_number: 296-38995-ND; Height: 1.10MM; Weight: 81.8mg; Temperature: -40°C+125°C; Datasheet: Y:\MIS_DATABASE\DATASHEETS\ICS\POWER\LM25118MH.PDF; Crtd /date: MANIRAJA/250917; Chkd/date: MANIRAJA/250917; MECHANICAL 3D STEP FILE: ETSSOP20_25-59_260X180_1-1; Library Ref: LM25118MH_HTSSOP20
footprint ETSSOP20_25-59_260X180_1-1
pins: 1 VIN (in), 2 UVLO, 3 RT, 4 EN, 5 RAMP, 6 AGND (power), 7 SS, 8 FB, 9 COMP, 10 VOUT (out), 11 SYNC, 12 CS, 13 CSG, 14 PGND (power), 15 LO, 16 VCC (power), 17 VCCX (power), 18 HB, 19 HO, 20 HS, 21 EP (power)

## LP5912-1-8DRVT_WSON6
designator U?, comment LP5912-1.8DRVT
IC 500mA LOW NOISE LOW IQ LDO WSON6; Mistral Part No: 142017090021-R; Mfr_name: TEXAS INSTRUMENTS; Part_type: ICS\POWER\VOLTAGE REGULATOR; Project: TI_MAXIE_CPB; Tolerance: NA; Customs_HS_Code: 85423100; Custom_Duty: 15%; MECHANICAL 3D STEP FILE: SON6_25-59_85X85_0-8; Mfr_part_number: LP5912-1.8DRVT; Voltage: NA; Wattage: NA; Package: WSON6; Distributor_name: DIGIKEY; Distributor_part_number: 296-44156-1-ND; Height: 0.80MM; Weight: 9.7mg; Temperature: -40°C+125°C; Datasheet: Y:\MIS_DATABASE\DATASHEETS\ICS\POWER\LP5912XX.PDF; Crtd /date: MANIRAJA/250917; Chkd/date: MANIRAJA/250917; PCB Footprint: SON6_25-59_85X85_0-8; Library Ref: LP5912-1-8DRVT_WSON6
footprint SON6_25-59_85X85_0-8
pins: 1 OUT (out), 2 NC, 3 PG, 4 EN, 5 GND (power), 6 IN (in), 7 EP (power)

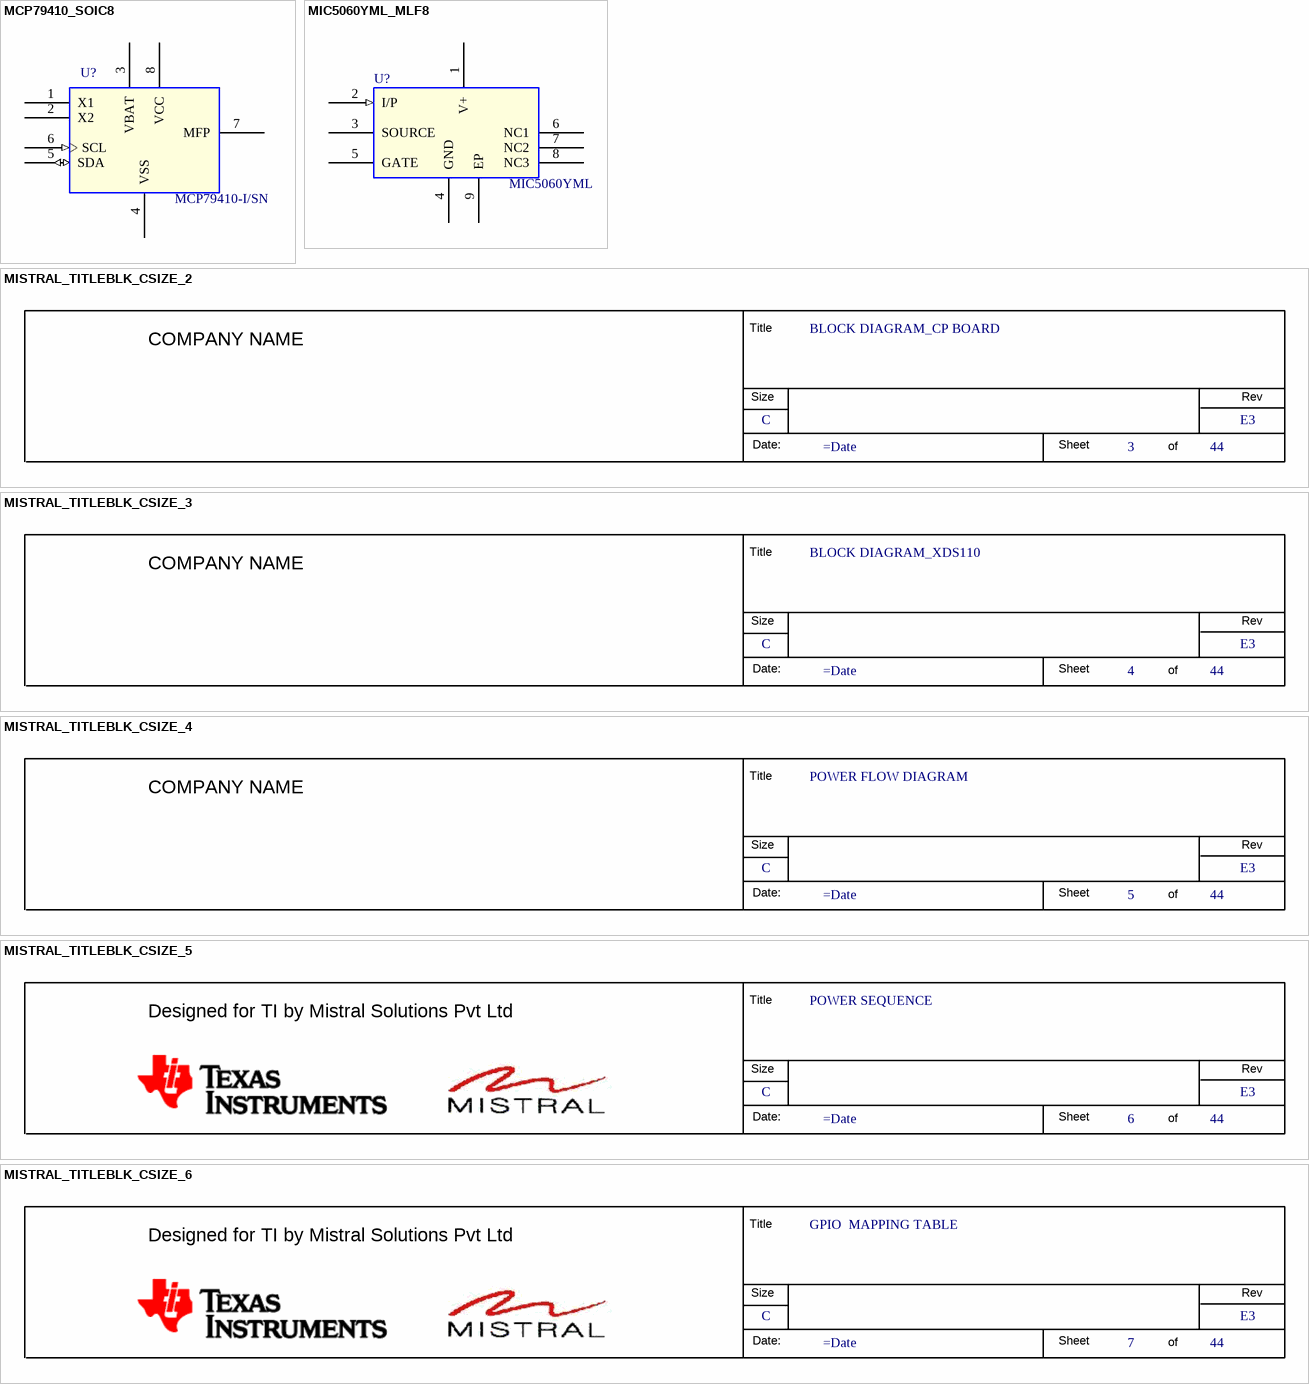
[diagram p9: symbols MCP79410_SOIC8 to MISTRAL_TITLEBLK_CSIZE_6]

## MCP79410_SOIC8
designator U?, comment MCP79410-I/SN
IC BATTERY-BACKED I2C RTCC WITH SRAM,EEPROM SOIC8; Part_type: ICS\POWER\BATTERY MANGEMENT; Mfr_name: MICROCHIP; Mistral Part No: 142017060006-R; MECHANICAL 3D STEP FILE: SOIC8_1-8; Custom_Duty: 15%; Customs_HS_Code: 85423100; Wattage: NA; Project: TI_SVB_CONTROLLER CARD; Library Ref: MCP79410_SOIC8; Chkd/date: MANIRAJA/190617; Crtd /date: MANIRAJA/190617; Datasheet: Y:\MIS_DATABASE\DATASHEETS\ICS\POWER\MCP7941XX.PDF; Temperature: -40°C+85°C; Weight: 540mg; Height: 1.75MM; Distributor_part_number: MCP79410-I/SN-ND; Distributor_name: DIGIKEY; Package: SOIC8; Voltage: NA; Tolerance: NA; Mfr_part_number: MCP79410-I/SN; PCB Footprint: SOIC8_1-8
footprint SOIC8_1-8
pins: 1 X1, 2 X2, 3 VBAT (power), 4 VSS (power), 5 SDA (io), 6 SCL (in), 7 MFP, 8 VCC (power)

## MIC5060YML_MLF8
designator U?, comment MIC5060YML
IC ULTRA SMALL HIGH SIDE MOSFET DRIVER MLF8; Mistral Part No: 142017100011-R; Mfr_name: MICREL; Mfr_part_number: MIC5060YML-TR; Part_type: ICS\POWER\DRIVER; Project: TI_MAXIE_CPB; Tolerance: NA; Customs_HS_Code: 85423100; Custom_Duty: 15%; MECHANICAL 3D STEP FILE: DFN8_25-59_120X120_1; Library Ref: MIC5060YML_MLF8; Voltage: NA; Wattage: NA; Package: MLF8; Distributor_name: DIGIKEY; Distributor_part_number: 576-3669-1-ND; Height: 1.00MM; Weight: NA; Temperature: -40°C+85°C; Datasheet: Y:\MIS_DATABASE\DATASHEETS\ICS\POWER\MIC5060YML.PDF; Crtd /date: MANIRAJA/131017; Chkd/date: MANIRAJA/131017; PCB Footprint: DFN8_25-59_120X120_1
footprint DFN8_25-59_120X120_1
pins: 1 V+ (power), 2 I/P (in), 3 SOURCE, 4 GND (power), 5 GATE, 6 NC1, 7 NC2, 8 NC3, 9 EP (power)

## MISTRAL_TITLEBLK_CSIZE_2
designator *?, comment RevCode: E3  Title: BLOCK DIAGRAM_CP BOARD  Page Size: C  Page Number: 3  Page Count: 44  (hidden comment: MISTRAL_TITLEBLK_CSIZE)  (graphical)
Issue: 1.0; Page Create Date: March  8, 1995; Page Modify Date: =Date
text: Title; COMPANY NAME; Size; Rev; Date:; Sheet; of

## MISTRAL_TITLEBLK_CSIZE_3
designator *?, comment RevCode: E3  Title: BLOCK DIAGRAM_XDS110  Page Size: C  Page Number: 4  Page Count: 44  (hidden comment: MISTRAL_TITLEBLK_CSIZE)  (graphical)
Issue: 1.0; Page Create Date: March  8, 1995; Page Modify Date: =Date
text: Title; COMPANY NAME; Size; Rev; Date:; Sheet; of

## MISTRAL_TITLEBLK_CSIZE_4
designator *?, comment RevCode: E3  Title: POWER FLOW DIAGRAM  Page Size: C  Page Number: 5  Page Count: 44  (hidden comment: MISTRAL_TITLEBLK_CSIZE)  (graphical)
Issue: 1.0; Page Create Date: March  8, 1995; Page Modify Date: =Date
text: Title; COMPANY NAME; Size; Rev; Date:; Sheet; of

## MISTRAL_TITLEBLK_CSIZE_5
designator *?, comment RevCode: E3  Title: POWER SEQUENCE  Page Size: C  Page Number: 6  Page Count: 44  (hidden comment: MISTRAL_TITLEBLK_CSIZE)  (graphical)
Issue: 1.0; Page Create Date: March  8, 1995; Page Modify Date: =Date
text: Title; Designed for TI by Mistral Solutions Pvt Ltd; Size; Rev; Date:; Sheet; of

## MISTRAL_TITLEBLK_CSIZE_6
designator *?, comment RevCode: E3  Title: GPIO  MAPPING TABLE  Page Size: C  Page Number: 7  Page Count: 44  (hidden comment: MISTRAL_TITLEBLK_CSIZE)  (graphical)
Issue: 1.0; Page Create Date: March  8, 1995; Page Modify Date: =Date
text: Title; Designed for TI by Mistral Solutions Pvt Ltd; Size; Rev; Date:; Sheet; of

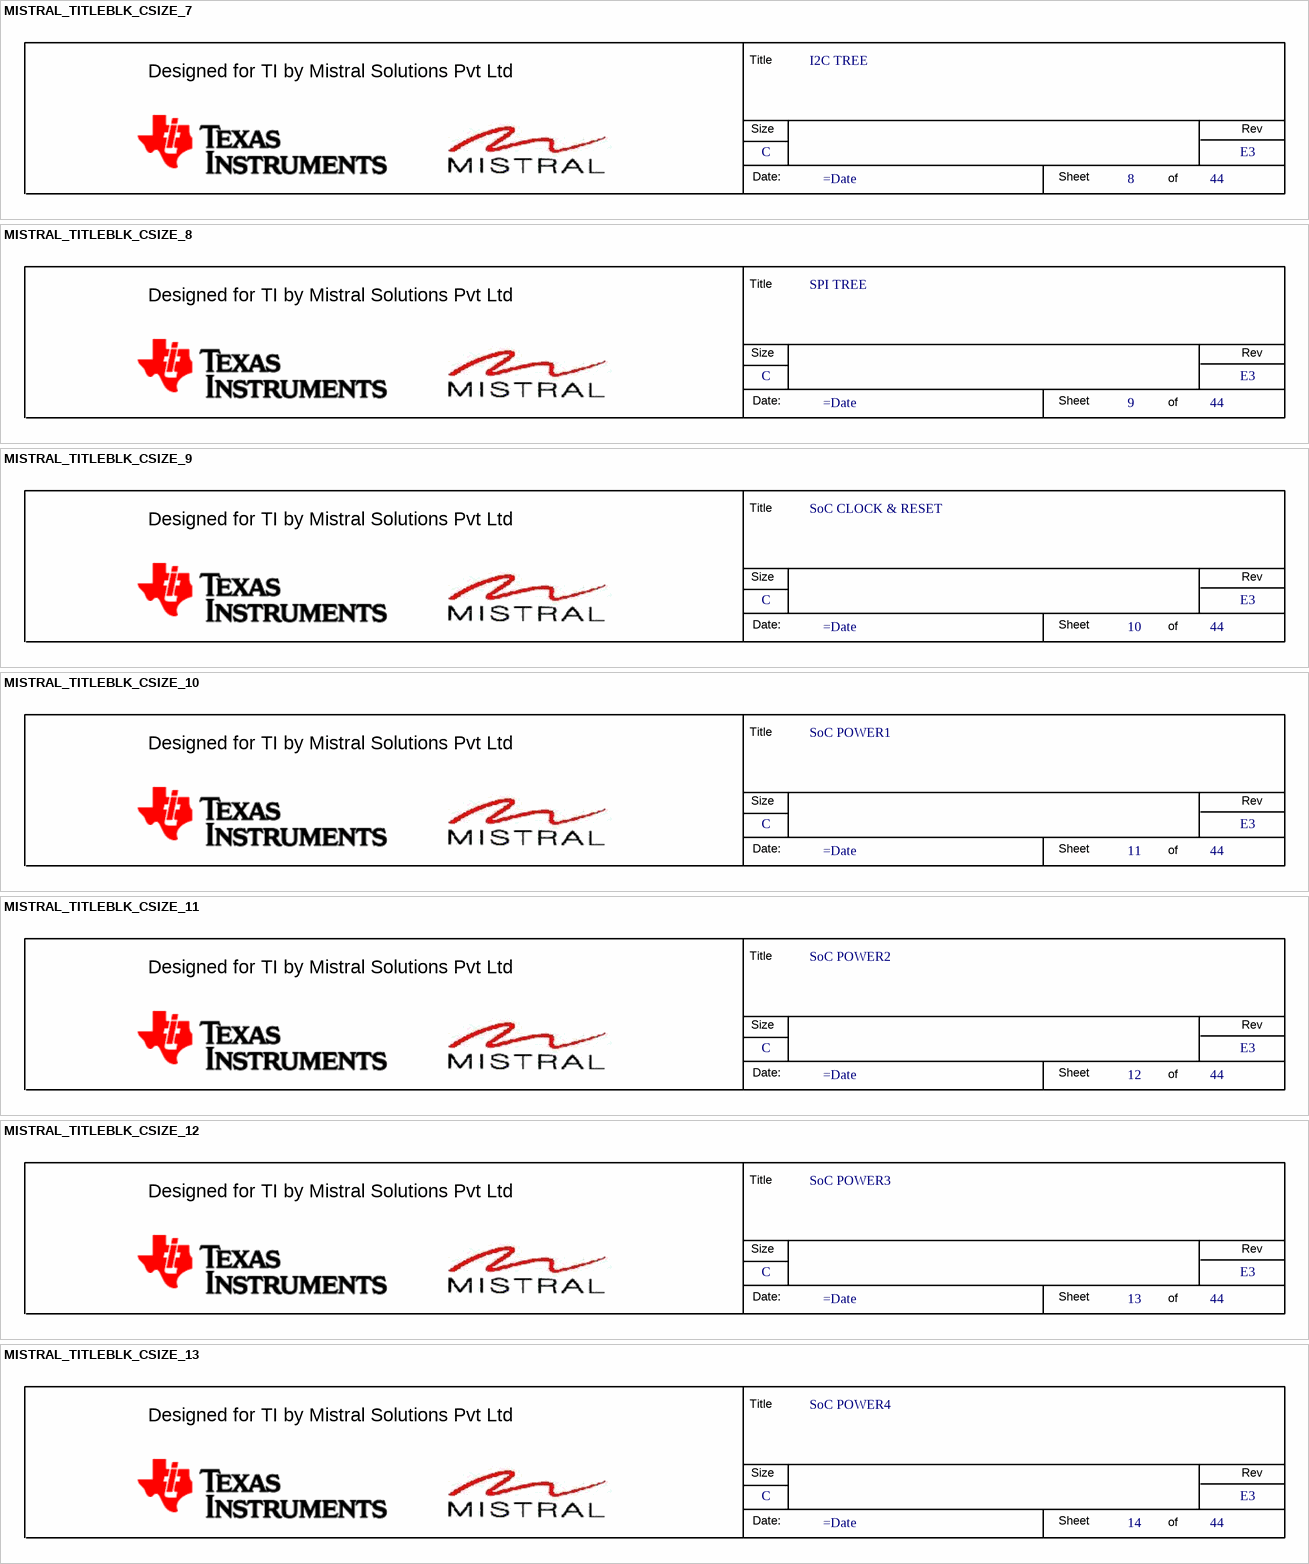
[diagram p10: symbols MISTRAL_TITLEBLK_CSIZE_7 to MISTRAL_TITLEBLK_CSIZE_13]

## MISTRAL_TITLEBLK_CSIZE_7
designator *?, comment RevCode: E3  Title: I2C TREE  Page Size: C  Page Number: 8  Page Count: 44  (hidden comment: MISTRAL_TITLEBLK_CSIZE)  (graphical)
Issue: 1.0; Page Create Date: March  8, 1995; Page Modify Date: =Date
text: Title; Designed for TI by Mistral Solutions Pvt Ltd; Size; Rev; Date:; Sheet; of

## MISTRAL_TITLEBLK_CSIZE_8
designator *?, comment RevCode: E3  Title: SPI TREE  Page Size: C  Page Number: 9  Page Count: 44  (hidden comment: MISTRAL_TITLEBLK_CSIZE)  (graphical)
Issue: 1.0; Page Create Date: March  8, 1995; Page Modify Date: =Date
text: Title; Designed for TI by Mistral Solutions Pvt Ltd; Size; Rev; Date:; Sheet; of

## MISTRAL_TITLEBLK_CSIZE_9
designator *?, comment RevCode: E3  Title: SoC CLOCK & RESET  Page Size: C  Page Number: 10  Page Count: 44  (hidden comment: MISTRAL_TITLEBLK_CSIZE)  (graphical)
Issue: 1.0; Page Create Date: March  8, 1995; Page Modify Date: =Date
text: Title; Designed for TI by Mistral Solutions Pvt Ltd; Size; Rev; Date:; Sheet; of

## MISTRAL_TITLEBLK_CSIZE_10
designator *?, comment RevCode: E3  Title: SoC POWER1  Page Size: C  Page Number: 11  Page Count: 44  (hidden comment: MISTRAL_TITLEBLK_CSIZE)  (graphical)
Issue: 1.0; Page Create Date: March  8, 1995; Page Modify Date: =Date
text: Title; Designed for TI by Mistral Solutions Pvt Ltd; Size; Rev; Date:; Sheet; of

## MISTRAL_TITLEBLK_CSIZE_11
designator *?, comment RevCode: E3  Title: SoC POWER2  Page Size: C  Page Number: 12  Page Count: 44  (hidden comment: MISTRAL_TITLEBLK_CSIZE)  (graphical)
Issue: 1.0; Page Create Date: March  8, 1995; Page Modify Date: =Date
text: Title; Designed for TI by Mistral Solutions Pvt Ltd; Size; Rev; Date:; Sheet; of

## MISTRAL_TITLEBLK_CSIZE_12
designator *?, comment RevCode: E3  Title: SoC POWER3  Page Size: C  Page Number: 13  Page Count: 44  (hidden comment: MISTRAL_TITLEBLK_CSIZE)  (graphical)
Issue: 1.0; Page Create Date: March  8, 1995; Page Modify Date: =Date
text: Title; Designed for TI by Mistral Solutions Pvt Ltd; Size; Rev; Date:; Sheet; of

## MISTRAL_TITLEBLK_CSIZE_13
designator *?, comment RevCode: E3  Title: SoC POWER4  Page Size: C  Page Number: 14  Page Count: 44  (hidden comment: MISTRAL_TITLEBLK_CSIZE)  (graphical)
Issue: 1.0; Page Create Date: March  8, 1995; Page Modify Date: =Date
text: Title; Designed for TI by Mistral Solutions Pvt Ltd; Size; Rev; Date:; Sheet; of

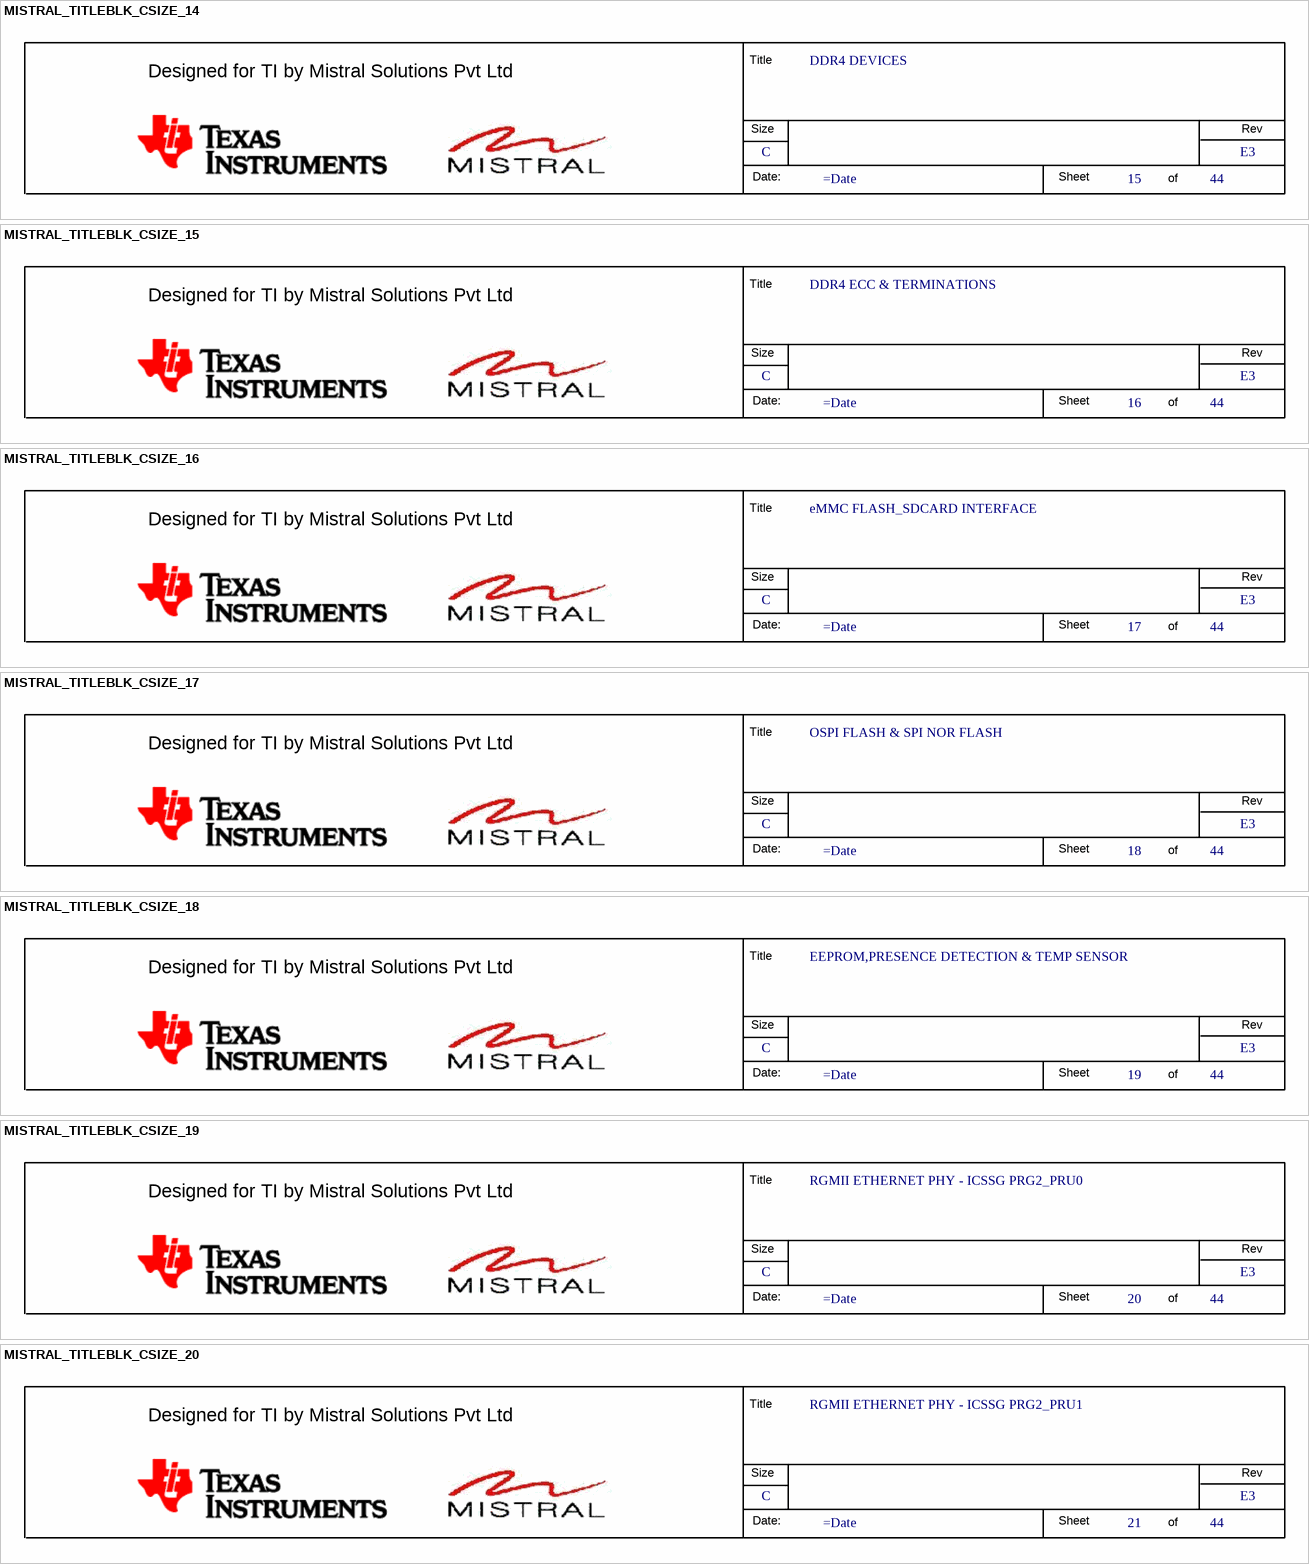
[diagram p11: symbols MISTRAL_TITLEBLK_CSIZE_14 to MISTRAL_TITLEBLK_CSIZE_20]

## MISTRAL_TITLEBLK_CSIZE_14
designator *?, comment RevCode: E3  Title: DDR4 DEVICES  Page Size: C  Page Number: 15  Page Count: 44  (hidden comment: MISTRAL_TITLEBLK_CSIZE)  (graphical)
Issue: 1.0; Page Create Date: March  8, 1995; Page Modify Date: =Date
text: Title; Designed for TI by Mistral Solutions Pvt Ltd; Size; Rev; Date:; Sheet; of

## MISTRAL_TITLEBLK_CSIZE_15
designator *?, comment RevCode: E3  Title: DDR4 ECC & TERMINATIONS  Page Size: C  Page Number: 16  Page Count: 44  (hidden comment: MISTRAL_TITLEBLK_CSIZE)  (graphical)
Issue: 1.0; Page Create Date: March  8, 1995; Page Modify Date: =Date
text: Title; Designed for TI by Mistral Solutions Pvt Ltd; Size; Rev; Date:; Sheet; of

## MISTRAL_TITLEBLK_CSIZE_16
designator *?, comment RevCode: E3  Title: eMMC FLASH_SDCARD INTERFACE  Page Size: C  Page Number: 17  Page Count: 44  (hidden comment: MISTRAL_TITLEBLK_CSIZE)  (graphical)
Issue: 1.0; Page Create Date: March  8, 1995; Page Modify Date: =Date
text: Title; Designed for TI by Mistral Solutions Pvt Ltd; Size; Rev; Date:; Sheet; of

## MISTRAL_TITLEBLK_CSIZE_17
designator *?, comment RevCode: E3  Title: OSPI FLASH & SPI NOR FLASH  Page Size: C  Page Number: 18  Page Count: 44  (hidden comment: MISTRAL_TITLEBLK_CSIZE)  (graphical)
Issue: 1.0; Page Create Date: March  8, 1995; Page Modify Date: =Date
text: Title; Designed for TI by Mistral Solutions Pvt Ltd; Size; Rev; Date:; Sheet; of

## MISTRAL_TITLEBLK_CSIZE_18
designator *?, comment RevCode: E3  Title: EEPROM,PRESENCE DETECTION & TEMP SENSOR  Page Size: C  Page Number: 19  Page Count: 44  (hidden comment: MISTRAL_TITLEBLK_CSIZE)  (graphical)
Issue: 1.0; Page Create Date: March  8, 1995; Page Modify Date: =Date
text: Title; Designed for TI by Mistral Solutions Pvt Ltd; Size; Rev; Date:; Sheet; of

## MISTRAL_TITLEBLK_CSIZE_19
designator *?, comment RevCode: E3  Title: RGMII ETHERNET PHY - ICSSG PRG2_PRU0  Page Size: C  Page Number: 20  Page Count: 44  (hidden comment: MISTRAL_TITLEBLK_CSIZE)  (graphical)
Issue: 1.0; Page Create Date: March  8, 1995; Page Modify Date: =Date
text: Title; Designed for TI by Mistral Solutions Pvt Ltd; Size; Rev; Date:; Sheet; of

## MISTRAL_TITLEBLK_CSIZE_20
designator *?, comment RevCode: E3  Title: RGMII ETHERNET PHY - ICSSG PRG2_PRU1  Page Size: C  Page Number: 21  Page Count: 44  (hidden comment: MISTRAL_TITLEBLK_CSIZE)  (graphical)
Issue: 1.0; Page Create Date: March  8, 1995; Page Modify Date: =Date
text: Title; Designed for TI by Mistral Solutions Pvt Ltd; Size; Rev; Date:; Sheet; of

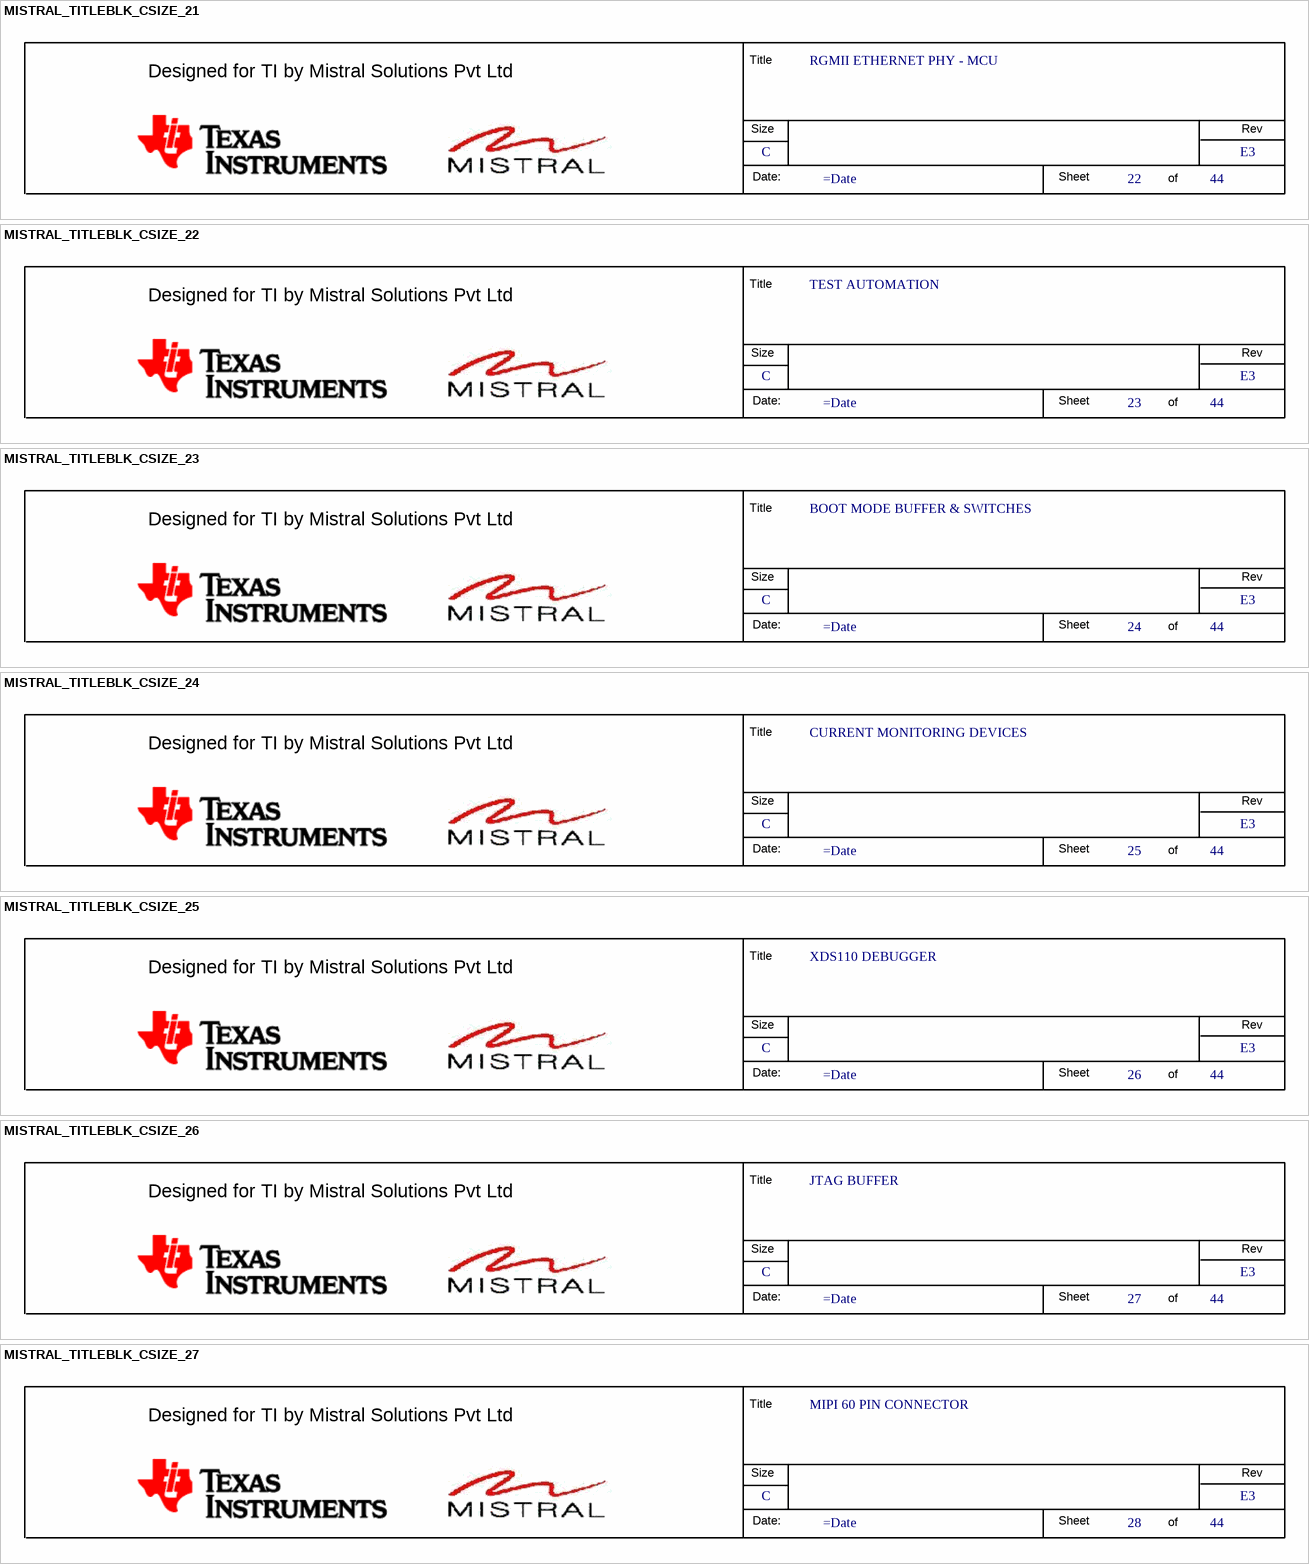
[diagram p12: symbols MISTRAL_TITLEBLK_CSIZE_21 to MISTRAL_TITLEBLK_CSIZE_27]

## MISTRAL_TITLEBLK_CSIZE_21
designator *?, comment RevCode: E3  Title: RGMII ETHERNET PHY - MCU  Page Size: C  Page Number: 22  Page Count: 44  (hidden comment: MISTRAL_TITLEBLK_CSIZE)  (graphical)
Issue: 1.0; Page Create Date: March  8, 1995; Page Modify Date: =Date
text: Title; Designed for TI by Mistral Solutions Pvt Ltd; Size; Rev; Date:; Sheet; of

## MISTRAL_TITLEBLK_CSIZE_22
designator *?, comment RevCode: E3  Title: TEST AUTOMATION  Page Size: C  Page Number: 23  Page Count: 44  (hidden comment: MISTRAL_TITLEBLK_CSIZE)  (graphical)
Issue: 1.0; Page Create Date: March  8, 1995; Page Modify Date: =Date
text: Title; Designed for TI by Mistral Solutions Pvt Ltd; Size; Rev; Date:; Sheet; of

## MISTRAL_TITLEBLK_CSIZE_23
designator *?, comment RevCode: E3  Title: BOOT MODE BUFFER & SWITCHES  Page Size: C  Page Number: 24  Page Count: 44  (hidden comment: MISTRAL_TITLEBLK_CSIZE)  (graphical)
Issue: 1.0; Page Create Date: March  8, 1995; Page Modify Date: =Date
text: Title; Designed for TI by Mistral Solutions Pvt Ltd; Size; Rev; Date:; Sheet; of

## MISTRAL_TITLEBLK_CSIZE_24
designator *?, comment RevCode: E3  Title: CURRENT MONITORING DEVICES  Page Size: C  Page Number: 25  Page Count: 44  (hidden comment: MISTRAL_TITLEBLK_CSIZE)  (graphical)
Issue: 1.0; Page Create Date: March  8, 1995; Page Modify Date: =Date
text: Title; Designed for TI by Mistral Solutions Pvt Ltd; Size; Rev; Date:; Sheet; of

## MISTRAL_TITLEBLK_CSIZE_25
designator *?, comment RevCode: E3  Title: XDS110 DEBUGGER  Page Size: C  Page Number: 26  Page Count: 44  (hidden comment: MISTRAL_TITLEBLK_CSIZE)  (graphical)
Issue: 1.0; Page Create Date: March  8, 1995; Page Modify Date: =Date
text: Title; Designed for TI by Mistral Solutions Pvt Ltd; Size; Rev; Date:; Sheet; of

## MISTRAL_TITLEBLK_CSIZE_26
designator *?, comment RevCode: E3  Title: JTAG BUFFER  Page Size: C  Page Number: 27  Page Count: 44  (hidden comment: MISTRAL_TITLEBLK_CSIZE)  (graphical)
Issue: 1.0; Page Create Date: March  8, 1995; Page Modify Date: =Date
text: Title; Designed for TI by Mistral Solutions Pvt Ltd; Size; Rev; Date:; Sheet; of

## MISTRAL_TITLEBLK_CSIZE_27
designator *?, comment RevCode: E3  Title: MIPI 60 PIN CONNECTOR  Page Size: C  Page Number: 28  Page Count: 44  (hidden comment: MISTRAL_TITLEBLK_CSIZE)  (graphical)
Issue: 1.0; Page Create Date: March  8, 1995; Page Modify Date: =Date
text: Title; Designed for TI by Mistral Solutions Pvt Ltd; Size; Rev; Date:; Sheet; of

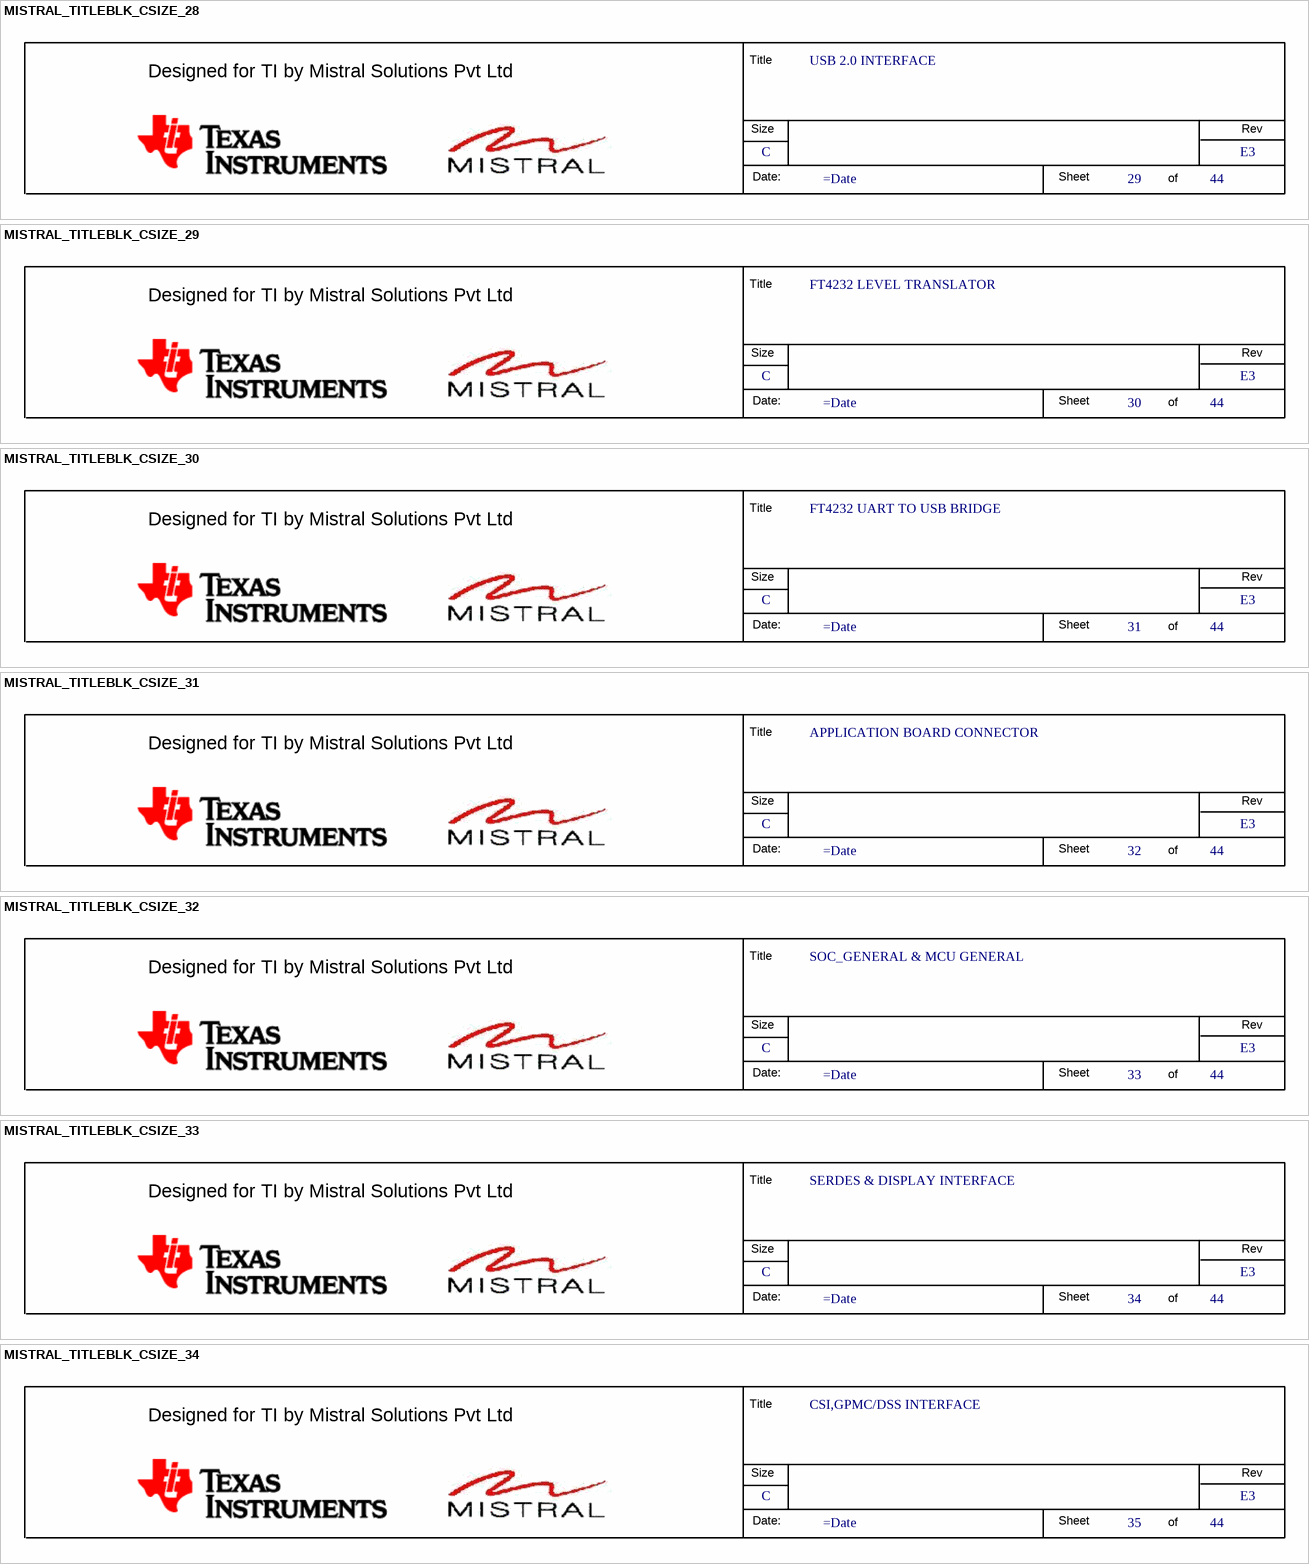
[diagram p13: symbols MISTRAL_TITLEBLK_CSIZE_28 to MISTRAL_TITLEBLK_CSIZE_34]

## MISTRAL_TITLEBLK_CSIZE_28
designator *?, comment RevCode: E3  Title: USB 2.0 INTERFACE  Page Size: C  Page Number: 29  Page Count: 44  (hidden comment: MISTRAL_TITLEBLK_CSIZE)  (graphical)
Issue: 1.0; Page Create Date: March  8, 1995; Page Modify Date: =Date
text: Title; Designed for TI by Mistral Solutions Pvt Ltd; Size; Rev; Date:; Sheet; of

## MISTRAL_TITLEBLK_CSIZE_29
designator *?, comment RevCode: E3  Title: FT4232 LEVEL TRANSLATOR  Page Size: C  Page Number: 30  Page Count: 44  (hidden comment: MISTRAL_TITLEBLK_CSIZE)  (graphical)
Issue: 1.0; Page Create Date: March  8, 1995; Page Modify Date: =Date
text: Title; Designed for TI by Mistral Solutions Pvt Ltd; Size; Rev; Date:; Sheet; of

## MISTRAL_TITLEBLK_CSIZE_30
designator *?, comment RevCode: E3  Title: FT4232 UART TO USB BRIDGE  Page Size: C  Page Number: 31  Page Count: 44  (hidden comment: MISTRAL_TITLEBLK_CSIZE)  (graphical)
Issue: 1.0; Page Create Date: March  8, 1995; Page Modify Date: =Date
text: Title; Designed for TI by Mistral Solutions Pvt Ltd; Size; Rev; Date:; Sheet; of

## MISTRAL_TITLEBLK_CSIZE_31
designator *?, comment RevCode: E3  Title: APPLICATION BOARD CONNECTOR  Page Size: C  Page Number: 32  Page Count: 44  (hidden comment: MISTRAL_TITLEBLK_CSIZE)  (graphical)
Issue: 1.0; Page Create Date: March  8, 1995; Page Modify Date: =Date
text: Title; Designed for TI by Mistral Solutions Pvt Ltd; Size; Rev; Date:; Sheet; of

## MISTRAL_TITLEBLK_CSIZE_32
designator *?, comment RevCode: E3  Title: SOC_GENERAL & MCU GENERAL  Page Size: C  Page Number: 33  Page Count: 44  (hidden comment: MISTRAL_TITLEBLK_CSIZE)  (graphical)
Issue: 1.0; Page Create Date: March  8, 1995; Page Modify Date: =Date
text: Title; Designed for TI by Mistral Solutions Pvt Ltd; Size; Rev; Date:; Sheet; of

## MISTRAL_TITLEBLK_CSIZE_33
designator *?, comment RevCode: E3  Title: SERDES & DISPLAY INTERFACE  Page Size: C  Page Number: 34  Page Count: 44  (hidden comment: MISTRAL_TITLEBLK_CSIZE)  (graphical)
Issue: 1.0; Page Create Date: March  8, 1995; Page Modify Date: =Date
text: Title; Designed for TI by Mistral Solutions Pvt Ltd; Size; Rev; Date:; Sheet; of

## MISTRAL_TITLEBLK_CSIZE_34
designator *?, comment RevCode: E3  Title: CSI,GPMC/DSS INTERFACE  Page Size: C  Page Number: 35  Page Count: 44  (hidden comment: MISTRAL_TITLEBLK_CSIZE)  (graphical)
Issue: 1.0; Page Create Date: March  8, 1995; Page Modify Date: =Date
text: Title; Designed for TI by Mistral Solutions Pvt Ltd; Size; Rev; Date:; Sheet; of

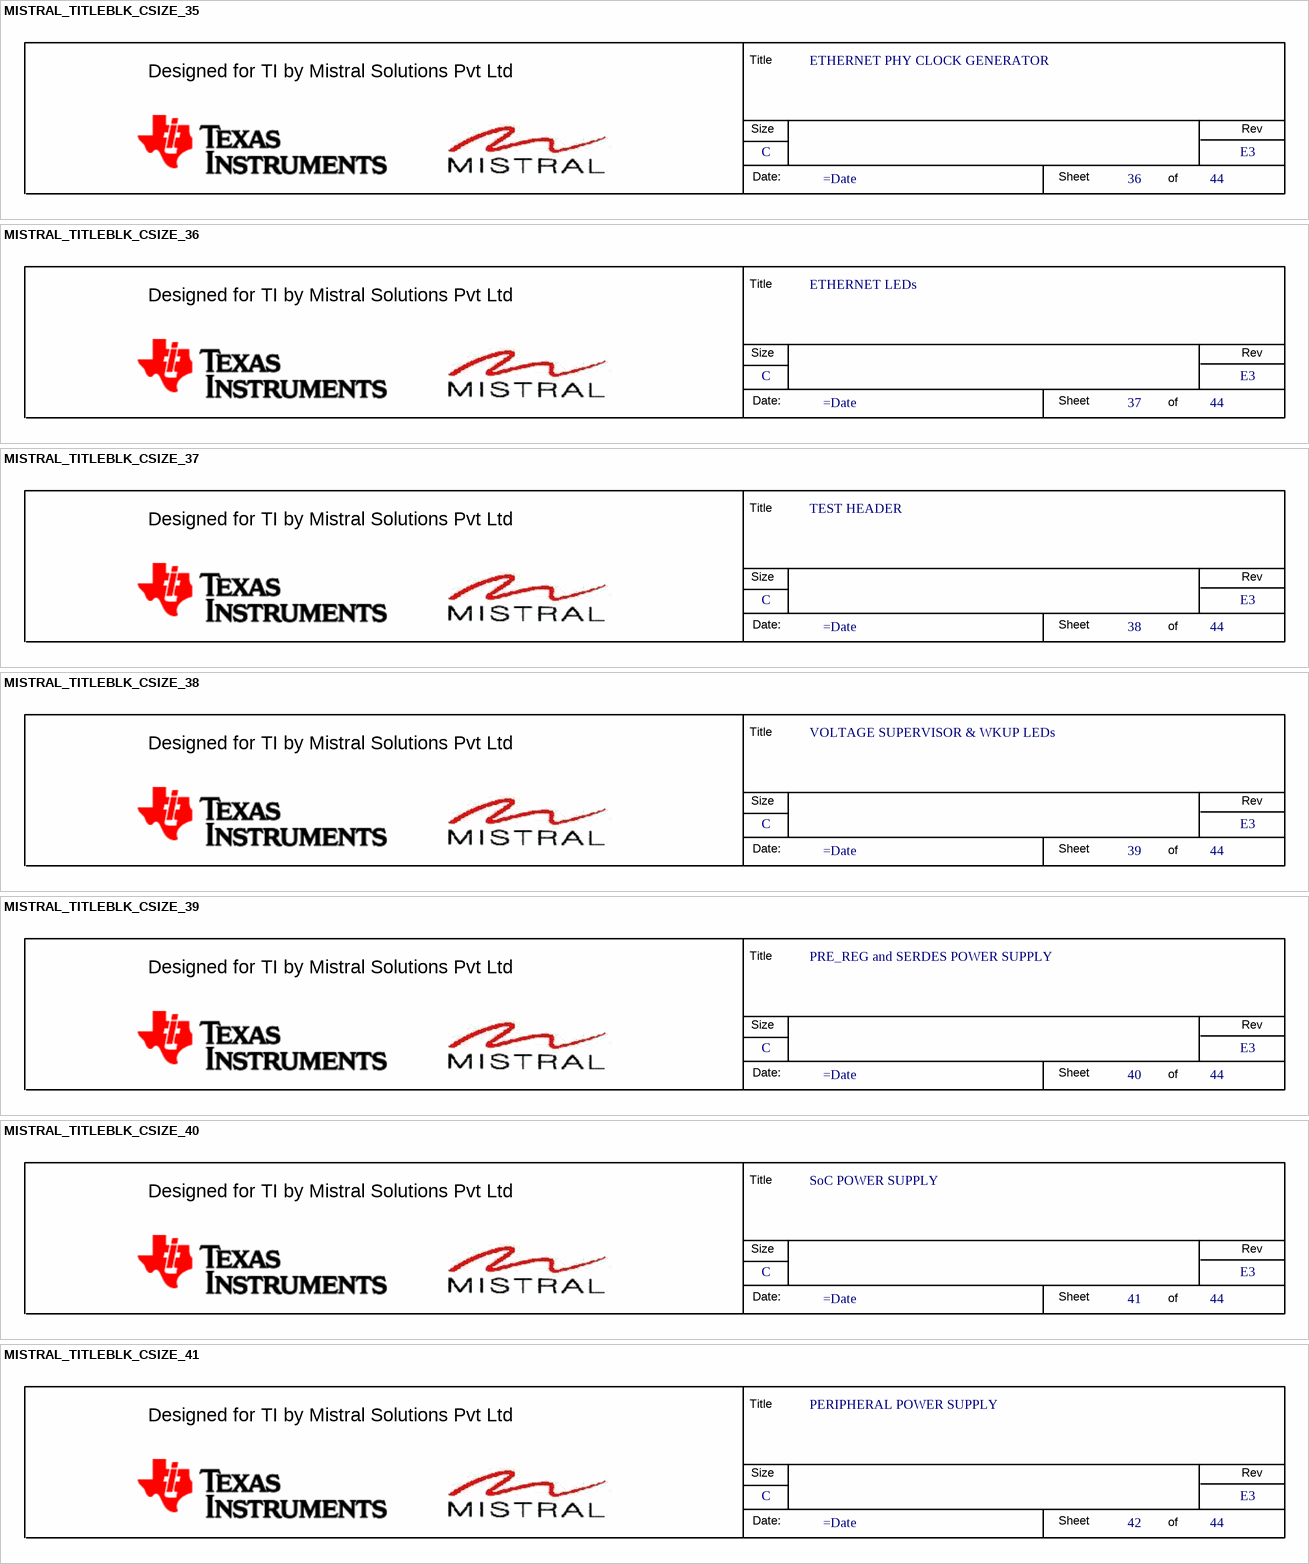
[diagram p14: symbols MISTRAL_TITLEBLK_CSIZE_35 to MISTRAL_TITLEBLK_CSIZE_41]

## MISTRAL_TITLEBLK_CSIZE_35
designator *?, comment RevCode: E3  Title: ETHERNET PHY CLOCK GENERATOR  Page Size: C  Page Number: 36  Page Count: 44  (hidden comment: MISTRAL_TITLEBLK_CSIZE)  (graphical)
Issue: 1.0; Page Create Date: March  8, 1995; Page Modify Date: =Date
text: Title; Designed for TI by Mistral Solutions Pvt Ltd; Size; Rev; Date:; Sheet; of

## MISTRAL_TITLEBLK_CSIZE_36
designator *?, comment RevCode: E3  Title: ETHERNET LEDs  Page Size: C  Page Number: 37  Page Count: 44  (hidden comment: MISTRAL_TITLEBLK_CSIZE)  (graphical)
Issue: 1.0; Page Create Date: March  8, 1995; Page Modify Date: =Date
text: Title; Designed for TI by Mistral Solutions Pvt Ltd; Size; Rev; Date:; Sheet; of

## MISTRAL_TITLEBLK_CSIZE_37
designator *?, comment RevCode: E3  Title: TEST HEADER  Page Size: C  Page Number: 38  Page Count: 44  (hidden comment: MISTRAL_TITLEBLK_CSIZE)  (graphical)
Issue: 1.0; Page Create Date: March  8, 1995; Page Modify Date: =Date
text: Title; Designed for TI by Mistral Solutions Pvt Ltd; Size; Rev; Date:; Sheet; of

## MISTRAL_TITLEBLK_CSIZE_38
designator *?, comment RevCode: E3  Title: VOLTAGE SUPERVISOR & WKUP LEDs  Page Size: C  Page Number: 39  Page Count: 44  (hidden comment: MISTRAL_TITLEBLK_CSIZE)  (graphical)
Issue: 1.0; Page Create Date: March  8, 1995; Page Modify Date: =Date
text: Title; Designed for TI by Mistral Solutions Pvt Ltd; Size; Rev; Date:; Sheet; of

## MISTRAL_TITLEBLK_CSIZE_39
designator *?, comment RevCode: E3  Title: PRE_REG and SERDES POWER SUPPLY  Page Size: C  Page Number: 40  Page Count: 44  (hidden comment: MISTRAL_TITLEBLK_CSIZE)  (graphical)
Issue: 1.0; Page Create Date: March  8, 1995; Page Modify Date: =Date
text: Title; Designed for TI by Mistral Solutions Pvt Ltd; Size; Rev; Date:; Sheet; of

## MISTRAL_TITLEBLK_CSIZE_40
designator *?, comment RevCode: E3  Title: SoC POWER SUPPLY  Page Size: C  Page Number: 41  Page Count: 44  (hidden comment: MISTRAL_TITLEBLK_CSIZE)  (graphical)
Issue: 1.0; Page Create Date: March  8, 1995; Page Modify Date: =Date
text: Title; Designed for TI by Mistral Solutions Pvt Ltd; Size; Rev; Date:; Sheet; of

## MISTRAL_TITLEBLK_CSIZE_41
designator *?, comment RevCode: E3  Title: PERIPHERAL POWER SUPPLY  Page Size: C  Page Number: 42  Page Count: 44  (hidden comment: MISTRAL_TITLEBLK_CSIZE)  (graphical)
Issue: 1.0; Page Create Date: March  8, 1995; Page Modify Date: =Date
text: Title; Designed for TI by Mistral Solutions Pvt Ltd; Size; Rev; Date:; Sheet; of

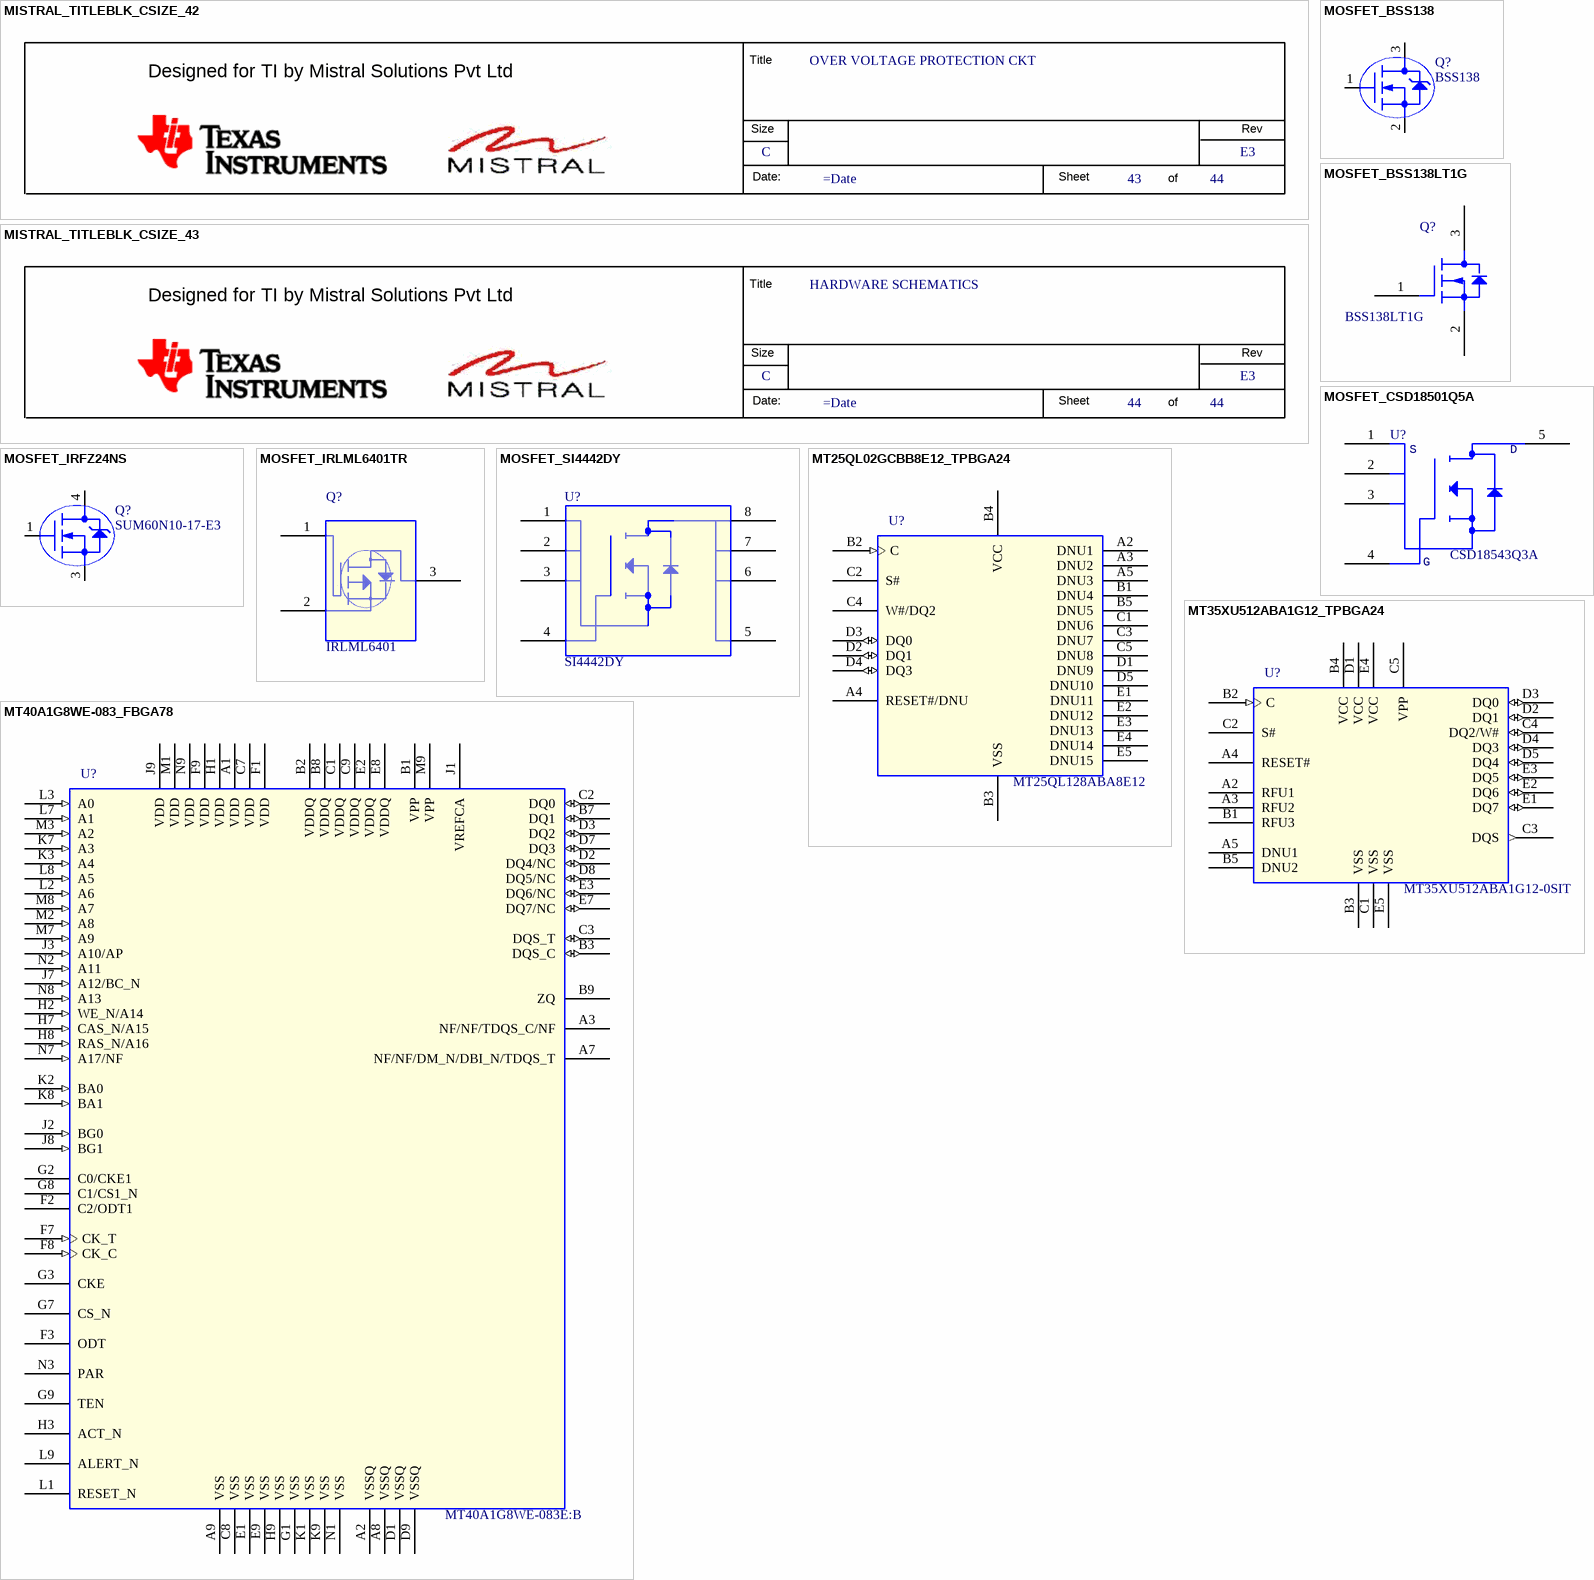
[diagram p15: symbols MISTRAL_TITLEBLK_CSIZE_42 to MT40A1G8WE-083_FBGA78]

## MISTRAL_TITLEBLK_CSIZE_42
designator *?, comment RevCode: E3  Title: OVER VOLTAGE PROTECTION CKT  Page Size: C  Page Number: 43  Page Count: 44  (hidden comment: MISTRAL_TITLEBLK_CSIZE)  (graphical)
Issue: 1.0; Page Create Date: March  8, 1995; Page Modify Date: =Date
text: Title; Designed for TI by Mistral Solutions Pvt Ltd; Size; Rev; Date:; Sheet; of

## MISTRAL_TITLEBLK_CSIZE_43
designator *?, comment RevCode: E3  Title: HARDWARE SCHEMATICS  Page Size: C  Page Number: 44  (hidden comment: MISTRAL_TITLEBLK_CSIZE)  (graphical)
Issue: 1.0; Page Create Date: March  8, 1995; Page Count: 44; Page Modify Date: =Date
text: Title; Designed for TI by Mistral Solutions Pvt Ltd; Size; Rev; Date:; Sheet; of

## MOSFET_BSS138
designator Q?, comment BSS138
IC MOSFET N-CHANNEL 50V 200mA SOT23-3; Part_type: ICS\POWER\MOSFET; Mfr_part_number: BSS138-7-F; Mfr_name: DIODES INC; Mistral Part No: 142009070019-R; Custom_Duty: 15%; Customs_HS_Code: 85423100; Wattage: 300mW; Project: KHAN_MAIN; PCB Footprint: TO_SOT23-123; Library Ref: MOSFET_BSS138; Chkd/date: SUHAS/191010; Crtd /date: USMAN/240709; Datasheet: Y:\MIS_DATABASE\DATASHEETS\DISCRETES\TRANSISTORS_FETS\BSS138.PDF; Temperature: -55°C+150°C; Weight: 0.008g; Height: 1.20MM; Distributor_part_number: BSS138CT-ND; Distributor_name: DIGIKEY; Package: SOT23-3; Voltage: 50V
footprint TO_SOT23-123
pins: 1 G, 2 S, 3 D

## MOSFET_BSS138LT1G
designator Q?, comment BSS138LT1G
IC MOSFET N-CHANNEL 50V, SOT23-3; Mistral Part No: 142016040001-R; Mfr_name: ON SEMICONDUCTOR; Part_type: ICS\POWER\MOSFET; PCB Footprint: SOT23-123; Project: LRDE_ABCM; Tolerance: NA; Customs_HS_Code: 85423100; Custom_Duty: 15%; Library Ref: MOSFET_BSS138LT1G; Mfr_part_number: BSS138LT1G; Voltage: 50V; Wattage: NA; Package: SOT23-3; Distributor_name: MOUSER; Distributor_part_number: 863-BSS138LT1G; Height: 1.11MM; Weight: NA; Temperature: -55°C+150°C; Datasheet: Y:\MIS_DATABASE\DATASHEETS\DISCRETES\TRANSISTORS_FETS\BSS138LT1G.PDF; Crtd /date: JEBRAN/060416; Chkd/date: VASANTHA/150416
footprint SOT23-123
pins: 1 G, 2 S, 3 D

## MOSFET_CSD18501Q5A
designator U?, comment CSD18543Q3A
IC MOSFET N-CHANNEL 60V VSONP8; Part_type: ICS\POWER\MOSFET; Mfr_name: TEXAS INSTRUMENTS; Mistral Part No: 142017100004-R; PCB Footprint: VSONP8_CSD18543Q_120X130_0-9; Custom_Duty: 15%; Customs_HS_Code: 85423100; Wattage: NA; Project: TI_MAXIE_CPB; MECHANICAL 3D STEP FILE: VSONP8_CSD18543Q_120X130_0-9; Chkd/date: MANIRAJA/041017; Crtd /date: MANIRAJA/041017; Datasheet: Y:\MIS_DATABASE\DATASHEETS\ICS\POWER\CSD18543Q3A.PDF; Temperature: -55°C+150°C; Weight: NA; Height: 0.90MM; Distributor_part_number: 296-47321-1-ND; Distributor_name: DIGIKEY; Package: VSONP8; Voltage: 60V; Tolerance: NA; Mfr_part_number: CSD18543Q3A; Library Ref: MOSFET_CSD18501Q5A
footprint VSONP8_CSD18543Q_120X130_0-9
pins: 1 S1, 2 S2, 3 S3, 4 G, 5 D
text: S

## MOSFET_IRFZ24NS
designator Q?, comment SUM60N10-17-E3
IC POWER MOSFET N-CHANNEL D2PAK; Mistral Part No: 142015100008-R; Mfr_name: VISHAY; Part_type: ICS\POWER\MOSFET; Project: GALILEO_EVM; Tolerance: NA; Voltage: 100V; Customs_HS_Code: 85423100; Custom_Duty: 15%; PCB Footprint: D2PAK-3; Library Ref: MOSFET_IRFZ24NS; Mfr_part_number: SUM60N10-17-E3; Wattage: NA; Package: D2PAK; Distributor_name: DIGIKEY; Distributor_part_number: SUM60N10-17-E3CT-ND; Height: 4.82MM; Weight: NA; Temperature: -55°C+175°C; Datasheet: Y:\MIS_DATABASE\DATASHEETS\DISCRETES\TRANSISTORS_FETS\SUM60N10.PDF; Crtd /date: VASANTHA/101015; Chkd/date: VASANTHA/101015
footprint D2PAK-3
pins: 1 G, 3 S, 4 D

## MOSFET_IRLML6401TR
designator Q?, comment IRLML6401
TRANSISTOR MOSFET P-CHANNEL SOT23-3; Part_type: TRANSISTOR\MOSFET; Mfr_part_number: IRLML6401TRPBF; Mfr_name: IRF; Mistral Part No: 130009031213-P; Remarks: Part# replaced from “IRLML6401TR” to “IRLML6401TRPBF” making as a Pb-free part. (BAVISH/220311).; Custom_Duty: 15%; Customs_HS_Code: 85412900; Wattage: NA; Project: G4_SVGA; PCB Footprint: TO_SOT23-123; Library Ref: MOSFET_IRLML6401TR; RoHS: Pb-Free; Chkd/date: SHREESHAIL/020206; Crtd /date: MAZHAR/040505; Datasheet: Y:\MIS_DATABASE\DATASHEETS\DISCRETES\TRANSISTORS_FETS\IRLML6401.PDF; Temperature: -55°C+150°C; Weight: NA; Height: 1.11MM; Distributor_part_number: IRLML6401PBFCT-ND; Distributor_name: DIGIKEY; Package: SOT23-3; Voltage: NA; Tolerance: NA
footprint TO_SOT23-123
pins: 1 G, 2 S, 3 D

## MOSFET_SI4442DY
designator U?, comment SI4442DY
IC MOSFET N-CHANNEL 30V 15A SOIC8; Part_type: ICS\POWER\MOSFET; Mfr_name: VISHAY; Mistral Part No: 142009030189-R; PCB Footprint: SOIC8_1-8; Custom_Duty: 15%; Customs_HS_Code: 85423100; Wattage: NA; Project: KHAN_MAIN; MECHANICAL 3D STEP FILE: SOIC8_1-8; Chkd/date: MANIRAJA/130617; Crtd /date: USMAN/121208; Datasheet: Y:\MIS_DATABASE\DATASHEETS\DISCRETES\TRANSISTORS_FETS\SI4442DY.PDF; Temperature: -55°C+150°C; Weight: 85mg; Height: 1.75MM; Distributor_part_number: 781-SI4442DY; Distributor_name: MOUSER; Package: SOIC8; Voltage: NA; Tolerance: NA; Mfr_part_number: SI4442DY; Library Ref: MOSFET_SI4442DY
footprint SOIC8_1-8
pins: 1 S1, 2 S2, 3 S3, 4 G, 5 D1, 6 D2, 7 D3, 8 D4

## MT25QL02GCBB8E12_TPBGA24
designator U?, comment MT25QL128ABA8E12
IC 128Mb SERIAL NOR FLASH MEMORY TPBGA24; Mistral Part No: 141117090006-R; Mfr_name: MICRON; Mfr_part_number: MT25QL128ABA8E12-0SIT; Part_type: ICS\DIGITAL\MEMORY; PCB Footprint: TPBGA24_39-37_240X320_1-2; Project: TI_SVB_MAXWELL_FMB; Tolerance: NA; Customs_HS_Code: 85423100; Custom_Duty: 15%; Library Ref: MT25QL02GCBB8E12_TPBGA24; Voltage: NA; Wattage: NA; Package: TPBGA24; Distributor_name: DIGIKEY; Distributor_part_number: MT25QL128ABA8E12-0SIT-ND; Height: 1.20MM; Weight: NA; Temperature: -40°C+85°C; Datasheet: Y:\MIS_DATABASE\DATASHEETS\ICS\MEMORY\MT25QLXXX.PDF; Crtd /date: MANIRAJA/110917; Chkd/date: MANIRAJA/110917; MECHANICAL 3D STEP FILE: TPBGA24_39-37_240X320_1-2
footprint TPBGA24_39-37_240X320_1-2
pins: A2 DNU1, A3 DNU2, A4 RESET#/DNU, A5 DNU3, B1 DNU4, B2 C (in), B3 VSS (power), B4 VCC (power), B5 DNU5, C1 DNU6, C2 S#, C3 DNU7, C4 W#/DQ2, C5 DNU8, D1 DNU9, D2 DQ1 (io), D3 DQ0 (io), D4 DQ3 (io), D5 DNU10, E1 DNU11, E2 DNU12, E3 DNU13, E4 DNU14, E5 DNU15

## MT35XU512ABA1G12_TPBGA24
designator U?, comment MT35XU512ABA1G12-0SIT
IC 512Mb XCCELA FLASH MEMORY TPBGA24; Part_type: ICS\DIGITAL\MEMORY; Mfr_name: MICRON; Mistral Part No: 141117080009-R; MECHANICAL 3D STEP FILE: TPBGA24_39-37_240X320_1-2; Custom_Duty: 15%; Customs_HS_Code: 85423100; Wattage: NA; Project: TI_MAXIE_CPB; Chkd/date: MANIRAJA/240817; Crtd /date: MANIRAJA/240817; Datasheet: Y:\MIS_DATABASE\DATASHEETS\ICS\MEMORY\MT35XU5XX.PDF; Temperature: -40°C+85°C; Weight: NA; Height: 1.20MM; Distributor_part_number: NA; Distributor_name: NA; Package: TPBGA24; Voltage: NA; Tolerance: NA; Mfr_part_number: MT35XU512ABA1G12-0SIT; Library Ref: MT35XU512ABA1G12_TPBGA24; PCB Footprint: TPBGA24_39-37_240X320_1-2
footprint TPBGA24_39-37_240X320_1-2
pins: A2 RFU1, A3 RFU2, A4 RESET#, A5 DNU1, B1 RFU3, B2 C (in), B3 VSS (power), B4 VCC (power), B5 DNU2, C1 VSS (power), C2 S#, C3 DQS (out), C4 DQ2/W# (io), C5 VPP (power), D1 VCC (power), D2 DQ1 (io), D3 DQ0 (io), D4 DQ3 (io), D5 DQ4 (io), E1 DQ7 (io), E2 DQ6 (io), E3 DQ5 (io), E4 VCC (power), E5 VSS (power)

## MT40A1G8WE-083_FBGA78
designator U?, comment MT40A1G8WE-083E:B
IC 1G8 DDR4 SDRAM MEMORY FBGA78; Mistral Part No: 141117080006-R; Mfr_name: MICRON; Part_type: ICS\DIGITAL\MEMORY; Project: TI_MAXIE_CPB; Tolerance: NA; Customs_HS_Code: 85423100; Custom_Duty: 15%; MECHANICAL 3D STEP FILE: FBGA78_31-49_320X480_1-2; Library Ref: MT40A1G8WE-083_FBGA78; Mfr_part_number: MT40A1G8WE-083E:B; Voltage: NA; Wattage: NA; Package: FBGA78; Distributor_name: DIGIKEY; Distributor_part_number: 557-1727-1-ND; Height: 1.20MM; Weight: NA; Temperature: 0°C+95°C; Datasheet: Y:\MIS_DATABASE\DATASHEETS\ICS\MEMORY\MT40AXX.PDF; Crtd /date: MANIRAJA/220817; Chkd/date: MANIRAJA/220817; PCB Footprint: FBGA78_31-49_320X480_1-2
footprint FBGA78_31-49_320X480_1-2
pins: A1 VDD (power), A2 VSSQ (power), A3 NF/NF/TDQS_C/NF, A7 NF/NF/DM_N/DBI_N/TDQS_T, A8 VSSQ (power), A9 VSS (power), B1 VPP (power), B2 VDDQ (power), B3 DQS_C (io), B7 DQ1 (io), B8 VDDQ (power), B9 ZQ, C1 VDDQ (power), C2 DQ0 (io), C3 DQS_T (io), C7 VDD (power), C8 VSS (power), C9 VDDQ (power), D1 VSSQ (power), D2 DQ4/NC (io), D3 DQ2 (io), D7 DQ3 (io), D8 DQ5/NC (io), D9 VSSQ (power), E1 VSS (power), E2 VDDQ (power), E3 DQ6/NC (io), E7 DQ7/NC (io), E8 VDDQ (power), E9 VSS (power), F1 VDD (power), F2 C2/ODT1, F3 ODT, F7 CK_T (in), F8 CK_C (in), F9 VDD (power), G1 VSS (power), G2 C0/CKE1, G3 CKE, G7 CS_N, G8 C1/CS1_N, G9 TEN, H1 VDD (power), H2 WE_N/A14 (in), H3 ACT_N, H7 CAS_N/A15 (in), H8 RAS_N/A16 (in), H9 VSS (power), J1 VREFCA (power), J2 BG0 (in), J3 A10/AP (in), J7 A12/BC_N (in), J8 BG1 (in), J9 VDD (power), K1 VSS (power), K2 BA0 (in), K3 A4 (in), K7 A3 (in), K8 BA1 (in), K9 VSS (power), L1 RESET_N, L2 A6 (in), L3 A0 (in), L7 A1 (in), L8 A5 (in), L9 ALERT_N, M1 VDD (power), M2 A8 (in), M3 A2 (in), M7 A9 (in), M8 A7 (in), M9 VPP (power), N1 VSS (power), N2 A11 (in), N3 PAR, N7 A17/NF (in), N8 A13 (in), N9 VDD (power)

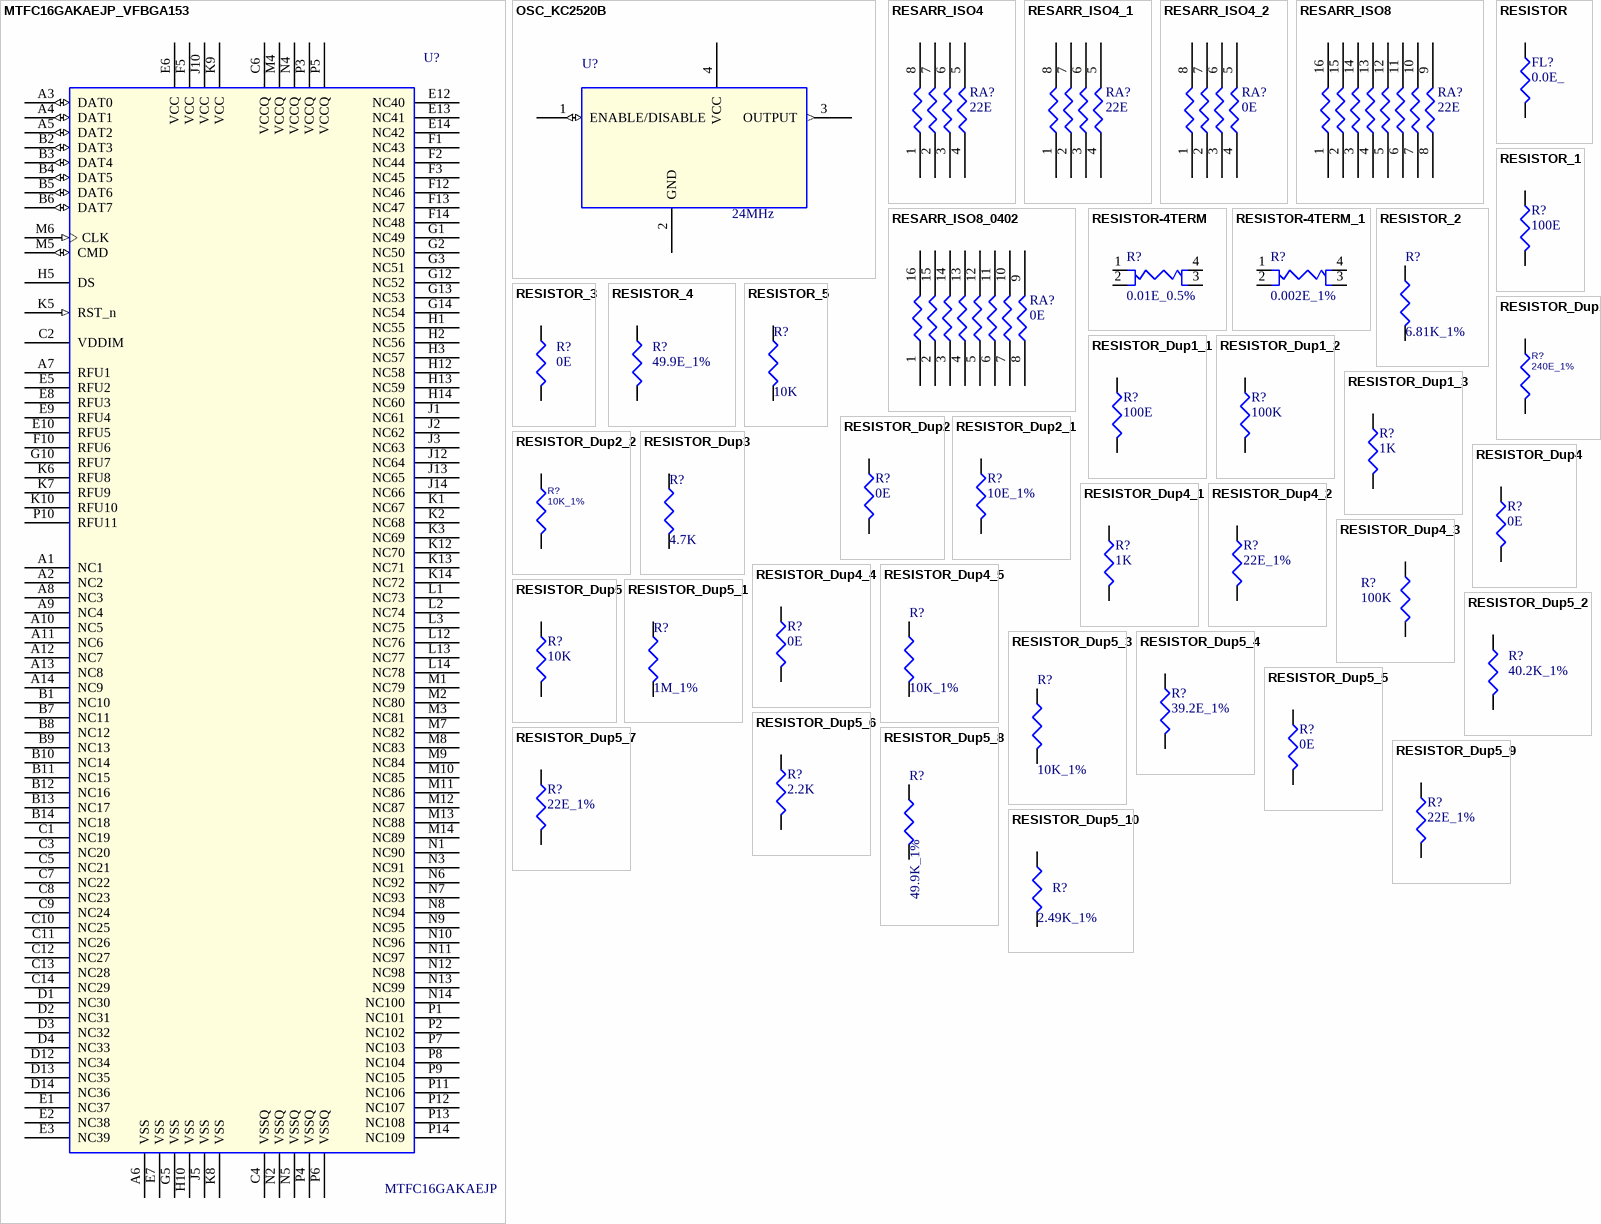
[diagram p16: symbols MTFC16GAKAEJP_VFBGA153 to RESISTOR_Dup5_10]